# Altium integrated library Xilinx Artix-7.IntLib: 78 symbols (part 13 of 23)
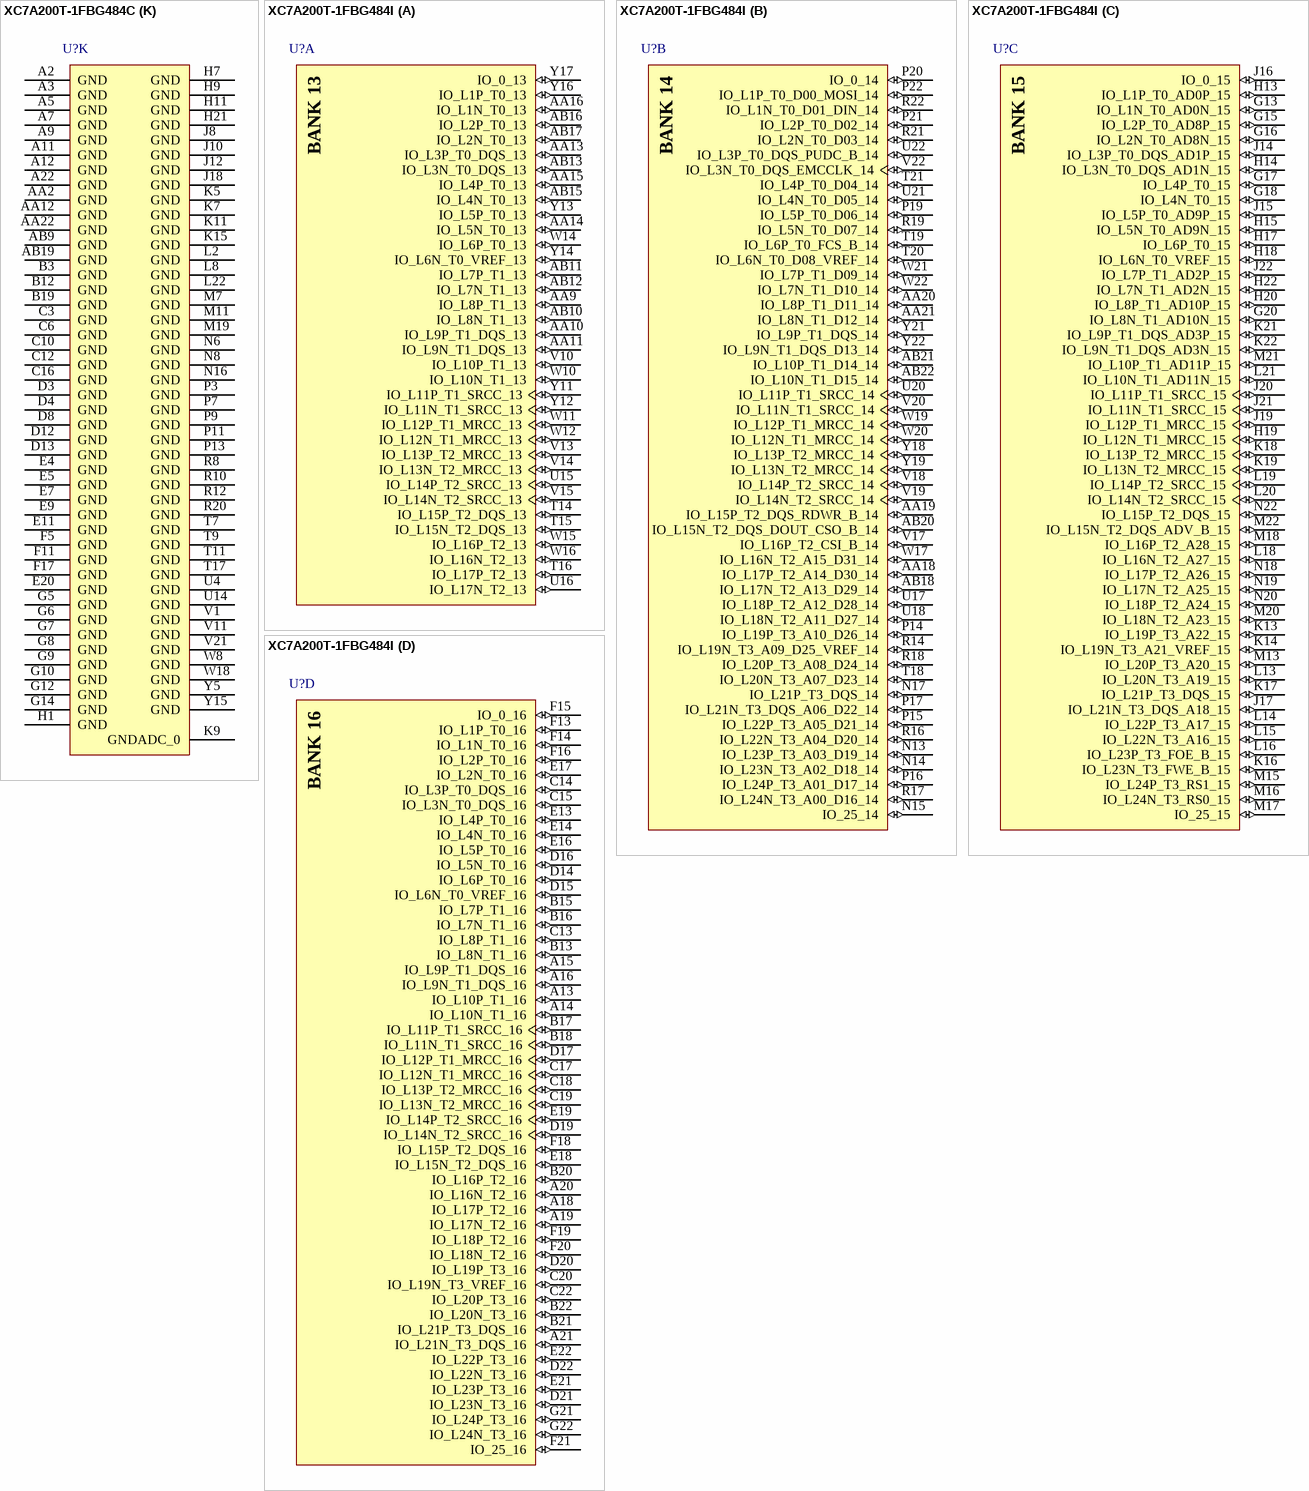
[diagram p139: symbols XC7A200T-1FBG484C to XC7A200T-1FBG484I]

## XC7A200T-1FBG484C
designator U?
Artix-7 FPGA, 285 User I/Os, 4 GTP, 484-Ball BGA, Speed Grade 1, Commercial Grade, Pb-Free; Generic Part Number: XC7A200T; Manufacturer: Xilinx; Block RAM Blocks (18Kb): 730; Block RAM Blocks (36Kb): 365; Block RAM Blocks (Max Kb): 13140; CLBs (Slices): 33650; Clock Mgmt Tiles (CMTs): 10; DSP48E1 Slices: 740; Logic Cells: 215360; Max User I/O: 500; Speed Grade: -1; NexusDeviceID: XC7A200T-1FBG484C; DatasheetVersion: v1.12; PackageVersion: Rev 1.8; PackageReference: FBG484; PackageDescription: Flip-Chip Lidless BGA, Body 23 x 23 mm, 1.0 mm Pitch; Supplier 1: Digi-Key; Supplier Part Number 1: 122-1871-ND; CLBs (Max Distributed RAM Kb): 2888; RoHS: Pb-Free; Mounting Technology: Surface Mount; Code_JEDEC: MS-034; PartNumber: XC7A200T-1FBG484C; ComponentLink1Description: Manufacturer URL; ComponentLink1URL: http://www.xilinx.com/; ComponentLink2Description: Datasheet; ComponentLink2URL: http://www.xilinx.com/support/documentation/data_sheets/ds180_7Series_Overview.pdf; ComponentLink3Description: Package Specification; ComponentLink3URL: http://www.xilinx.com/support/documentation/user_guides/ug475_7Series_Pkg_Pinout.pdf; ComponentLink4Description: DC and Switching Characteristics; ComponentLink4URL: http://www.xilinx.com/support/documentation/data_sheets/ds181_Artix_7_Data_Sheet.pdf; ComponentLink5Description: Package File; ComponentLink5URL: http://www.xilinx.com/support/packagefiles/a7packages/xc7a200tfbg484pkg.txt; ComponentLink6Description: Packaging and Pinout; ComponentLink6URL: http://www.xilinx.com/support/documentation/user_guides/ug475_7Series_Pkg_Pinout.pdf
footprint FBG484 (BGA, 484-Balls, Body 23x23mm, Pitch 1.0mm)
part A pins: AA9 IO_L8P_T1_13 (io), AA10 IO_L9P_T1_DQS_13 (io), AA11 IO_L9N_T1_DQS_13 (io), AA13 IO_L3P_T0_DQS_13 (io), AA14 IO_L5N_T0_13 (io), AA15 IO_L4P_T0_13 (io), AA16 IO_L1N_T0_13 (io), AB10 IO_L8N_T1_13 (io), AB11 IO_L7P_T1_13 (io), AB12 IO_L7N_T1_13 (io), AB13 IO_L3N_T0_DQS_13 (io), AB15 IO_L4N_T0_13 (io), AB16 IO_L2P_T0_13 (io), AB17 IO_L2N_T0_13 (io), T14 IO_L15P_T2_DQS_13 (io), T15 IO_L15N_T2_DQS_13 (io), T16 IO_L17P_T2_13 (io), U15 IO_L14P_T2_SRCC_13 (io), U16 IO_L17N_T2_13 (io), V10 IO_L10P_T1_13 (io), V13 IO_L13P_T2_MRCC_13 (io), V14 IO_L13N_T2_MRCC_13 (io), V15 IO_L14N_T2_SRCC_13 (io), W10 IO_L10N_T1_13 (io), W11 IO_L12P_T1_MRCC_13 (io), W12 IO_L12N_T1_MRCC_13 (io), W14 IO_L6P_T0_13 (io), W15 IO_L16P_T2_13 (io), W16 IO_L16N_T2_13 (io), Y11 IO_L11P_T1_SRCC_13 (io), Y12 IO_L11N_T1_SRCC_13 (io), Y13 IO_L5P_T0_13 (io), Y14 IO_L6N_T0_VREF_13 (io), Y16 IO_L1P_T0_13 (io), Y17 IO_0_13 (io)
part B pins: AA18 IO_L17P_T2_A14_D30_14 (io), AA19 IO_L15P_T2_DQS_RDWR_B_14 (io), AA20 IO_L8P_T1_D11_14 (io), AA21 IO_L8N_T1_D12_14 (io), AB18 IO_L17N_T2_A13_D29_14 (io), AB20 IO_L15N_T2_DQS_DOUT_CSO_B_14 (io), AB21 IO_L10P_T1_D14_14 (io), AB22 IO_L10N_T1_D15_14 (io), N13 IO_L23P_T3_A03_D19_14 (io), N14 IO_L23N_T3_A02_D18_14 (io), N15 IO_25_14 (io), N17 IO_L21P_T3_DQS_14 (io), P14 IO_L19P_T3_A10_D26_14 (io), P15 IO_L22P_T3_A05_D21_14 (io), P16 IO_L24P_T3_A01_D17_14 (io), P17 IO_L21N_T3_DQS_A06_D22_14 (io), P19 IO_L5P_T0_D06_14 (io), P20 IO_0_14 (io), P21 IO_L2P_T0_D02_14 (io), P22 IO_L1P_T0_D00_MOSI_14 (io), R14 IO_L19N_T3_A09_D25_VREF_14 (io), R16 IO_L22N_T3_A04_D20_14 (io), R17 IO_L24N_T3_A00_D16_14 (io), R18 IO_L20P_T3_A08_D24_14 (io), R19 IO_L5N_T0_D07_14 (io), R21 IO_L2N_T0_D03_14 (io), R22 IO_L1N_T0_D01_DIN_14 (io), T18 IO_L20N_T3_A07_D23_14 (io), T19 IO_L6P_T0_FCS_B_14 (io), T20 IO_L6N_T0_D08_VREF_14 (io), T21 IO_L4P_T0_D04_14 (io), U17 IO_L18P_T2_A12_D28_14 (io), U18 IO_L18N_T2_A11_D27_14 (io), U20 IO_L11P_T1_SRCC_14 (io), U21 IO_L4N_T0_D05_14 (io), U22 IO_L3P_T0_DQS_PUDC_B_14 (io), V17 IO_L16P_T2_CSI_B_14 (io), V18 IO_L14P_T2_SRCC_14 (io), V19 IO_L14N_T2_SRCC_14 (io), V20 IO_L11N_T1_SRCC_14 (io), V22 IO_L3N_T0_DQS_EMCCLK_14 (io), W17 IO_L16N_T2_A15_D31_14 (io), W19 IO_L12P_T1_MRCC_14 (io), W20 IO_L12N_T1_MRCC_14 (io), W21 IO_L7P_T1_D09_14 (io), W22 IO_L7N_T1_D10_14 (io), Y18 IO_L13P_T2_MRCC_14 (io), Y19 IO_L13N_T2_MRCC_14 (io), Y21 IO_L9P_T1_DQS_14 (io), Y22 IO_L9N_T1_DQS_D13_14 (io)
part C pins: G13 IO_L1N_T0_AD0N_15 (io), G15 IO_L2P_T0_AD8P_15 (io), G16 IO_L2N_T0_AD8N_15 (io), G17 IO_L4P_T0_15 (io), G18 IO_L4N_T0_15 (io), G20 IO_L8N_T1_AD10N_15 (io), H13 IO_L1P_T0_AD0P_15 (io), H14 IO_L3N_T0_DQS_AD1N_15 (io), H15 IO_L5N_T0_AD9N_15 (io), H17 IO_L6P_T0_15 (io), H18 IO_L6N_T0_VREF_15 (io), H19 IO_L12N_T1_MRCC_15 (io), H20 IO_L8P_T1_AD10P_15 (io), H22 IO_L7N_T1_AD2N_15 (io), J14 IO_L3P_T0_DQS_AD1P_15 (io), J15 IO_L5P_T0_AD9P_15 (io), J16 IO_0_15 (io), J17 IO_L21N_T3_DQS_A18_15 (io), J19 IO_L12P_T1_MRCC_15 (io), J20 IO_L11P_T1_SRCC_15 (io), J21 IO_L11N_T1_SRCC_15 (io), J22 IO_L7P_T1_AD2P_15 (io), K13 IO_L19P_T3_A22_15 (io), K14 IO_L19N_T3_A21_VREF_15 (io), K16 IO_L23N_T3_FWE_B_15 (io), K17 IO_L21P_T3_DQS_15 (io), K18 IO_L13P_T2_MRCC_15 (io), K19 IO_L13N_T2_MRCC_15 (io), K21 IO_L9P_T1_DQS_AD3P_15 (io), K22 IO_L9N_T1_DQS_AD3N_15 (io), L13 IO_L20N_T3_A19_15 (io), L14 IO_L22P_T3_A17_15 (io), L15 IO_L22N_T3_A16_15 (io), L16 IO_L23P_T3_FOE_B_15 (io), L18 IO_L16N_T2_A27_15 (io), L19 IO_L14P_T2_SRCC_15 (io), L20 IO_L14N_T2_SRCC_15 (io), L21 IO_L10N_T1_AD11N_15 (io), M13 IO_L20P_T3_A20_15 (io), M15 IO_L24P_T3_RS1_15 (io), M16 IO_L24N_T3_RS0_15 (io), M17 IO_25_15 (io), M18 IO_L16P_T2_A28_15 (io), M20 IO_L18N_T2_A23_15 (io), M21 IO_L10P_T1_AD11P_15 (io), M22 IO_L15N_T2_DQS_ADV_B_15 (io), N18 IO_L17P_T2_A26_15 (io), N19 IO_L17N_T2_A25_15 (io), N20 IO_L18P_T2_A24_15 (io), N22 IO_L15P_T2_DQS_15 (io)
part D pins: A13 IO_L10P_T1_16 (io), A14 IO_L10N_T1_16 (io), A15 IO_L9P_T1_DQS_16 (io), A16 IO_L9N_T1_DQS_16 (io), A18 IO_L17P_T2_16 (io), A19 IO_L17N_T2_16 (io), A20 IO_L16N_T2_16 (io), A21 IO_L21N_T3_DQS_16 (io), B13 IO_L8N_T1_16 (io), B15 IO_L7P_T1_16 (io), B16 IO_L7N_T1_16 (io), B17 IO_L11P_T1_SRCC_16 (io), B18 IO_L11N_T1_SRCC_16 (io), B20 IO_L16P_T2_16 (io), B21 IO_L21P_T3_DQS_16 (io), B22 IO_L20N_T3_16 (io), C13 IO_L8P_T1_16 (io), C14 IO_L3P_T0_DQS_16 (io), C15 IO_L3N_T0_DQS_16 (io), C17 IO_L12N_T1_MRCC_16 (io), C18 IO_L13P_T2_MRCC_16 (io), C19 IO_L13N_T2_MRCC_16 (io), C20 IO_L19N_T3_VREF_16 (io), C22 IO_L20P_T3_16 (io), D14 IO_L6P_T0_16 (io), D15 IO_L6N_T0_VREF_16 (io), D16 IO_L5N_T0_16 (io), D17 IO_L12P_T1_MRCC_16 (io), D19 IO_L14N_T2_SRCC_16 (io), D20 IO_L19P_T3_16 (io), D21 IO_L23N_T3_16 (io), D22 IO_L22N_T3_16 (io), E13 IO_L4P_T0_16 (io), E14 IO_L4N_T0_16 (io), E16 IO_L5P_T0_16 (io), E17 IO_L2N_T0_16 (io), E18 IO_L15N_T2_DQS_16 (io), E19 IO_L14P_T2_SRCC_16 (io), E21 IO_L23P_T3_16 (io), E22 IO_L22P_T3_16 (io), F13 IO_L1P_T0_16 (io), F14 IO_L1N_T0_16 (io), F15 IO_0_16 (io), F16 IO_L2P_T0_16 (io), F18 IO_L15P_T2_DQS_16 (io), F19 IO_L18P_T2_16 (io), F20 IO_L18N_T2_16 (io), F21 IO_25_16 (io), G21 IO_L24P_T3_16 (io), G22 IO_L24N_T3_16 (io)
part E pins: AA1 IO_L7P_T1_34 (io), AA3 IO_L9N_T1_DQS_34 (io), AA4 IO_L11N_T1_SRCC_34 (io), AA5 IO_L10P_T1_34 (io), AA6 IO_L18N_T2_34 (io), AA8 IO_L22P_T3_34 (io), AB1 IO_L7N_T1_34 (io), AB2 IO_L8N_T1_34 (io), AB3 IO_L8P_T1_34 (io), AB5 IO_L10N_T1_34 (io), AB6 IO_L20N_T3_34 (io), AB7 IO_L20P_T3_34 (io), AB8 IO_L22N_T3_34 (io), R2 IO_L3N_T0_DQS_34 (io), R3 IO_L3P_T0_DQS_34 (io), R4 IO_L13P_T2_MRCC_34 (io), R6 IO_L17P_T2_34 (io), T1 IO_L1P_T0_34 (io), T3 IO_0_34 (io), T4 IO_L13N_T2_MRCC_34 (io), T5 IO_L14P_T2_SRCC_34 (io), T6 IO_L17N_T2_34 (io), U1 IO_L1N_T0_34 (io), U2 IO_L2P_T0_34 (io), U3 IO_L6P_T0_34 (io), U5 IO_L14N_T2_SRCC_34 (io), U6 IO_L16P_T2_34 (io), U7 IO_25_34 (io), V2 IO_L2N_T0_34 (io), V3 IO_L6N_T0_VREF_34 (io), V4 IO_L12P_T1_MRCC_34 (io), V5 IO_L16N_T2_34 (io), V7 IO_L19P_T3_34 (io), V8 IO_L21N_T3_DQS_34 (io), V9 IO_L21P_T3_DQS_34 (io), W1 IO_L5P_T0_34 (io), W2 IO_L4P_T0_34 (io), W4 IO_L12N_T1_MRCC_34 (io), W5 IO_L15N_T2_DQS_34 (io), W6 IO_L15P_T2_DQS_34 (io), W7 IO_L19N_T3_VREF_34 (io), W9 IO_L24P_T3_34 (io), Y1 IO_L5N_T0_34 (io), Y2 IO_L4N_T0_34 (io), Y3 IO_L9P_T1_DQS_34 (io), Y4 IO_L11P_T1_SRCC_34 (io), Y6 IO_L18P_T2_34 (io), Y7 IO_L23N_T3_34 (io), Y8 IO_L23P_T3_34 (io), Y9 IO_L24N_T3_34 (io)
part F pins: A1 IO_L1N_T0_AD4N_35 (io), B1 IO_L1P_T0_AD4P_35 (io), B2 IO_L2N_T0_AD12N_35 (io), C2 IO_L2P_T0_AD12P_35 (io), D1 IO_L3N_T0_DQS_AD5N_35 (io), D2 IO_L4N_T0_35 (io), E1 IO_L3P_T0_DQS_AD5P_35 (io), E2 IO_L4P_T0_35 (io), E3 IO_L6N_T0_VREF_35 (io), F1 IO_L5N_T0_AD13N_35 (io), F3 IO_L6P_T0_35 (io), F4 IO_0_35 (io), G1 IO_L5P_T0_AD13P_35 (io), G2 IO_L8N_T1_AD14N_35 (io), G3 IO_L11N_T1_SRCC_35 (io), G4 IO_L12N_T1_MRCC_35 (io), H2 IO_L8P_T1_AD14P_35 (io), H3 IO_L11P_T1_SRCC_35 (io), H4 IO_L12P_T1_MRCC_35 (io), H5 IO_L10N_T1_AD15N_35 (io), J1 IO_L7N_T1_AD6N_35 (io), J2 IO_L9N_T1_DQS_AD7N_35 (io), J4 IO_L13N_T2_MRCC_35 (io), J5 IO_L10P_T1_AD15P_35 (io), J6 IO_L17N_T2_35 (io), K1 IO_L7P_T1_AD6P_35 (io), K2 IO_L9P_T1_DQS_AD7P_35 (io), K3 IO_L14N_T2_SRCC_35 (io), K4 IO_L13P_T2_MRCC_35 (io), K6 IO_L17P_T2_35 (io), L1 IO_L15N_T2_DQS_35 (io), L3 IO_L14P_T2_SRCC_35 (io), L4 IO_L18N_T2_35 (io), L5 IO_L18P_T2_35 (io), L6 IO_25_35 (io), M1 IO_L15P_T2_DQS_35 (io), M2 IO_L16N_T2_35 (io), M3 IO_L16P_T2_35 (io), M5 IO_L23N_T3_35 (io), M6 IO_L23P_T3_35 (io), N2 IO_L22N_T3_35 (io), N3 IO_L19N_T3_VREF_35 (io), N4 IO_L19P_T3_35 (io), N5 IO_L24N_T3_35 (io), P1 IO_L20N_T3_35 (io), P2 IO_L22P_T3_35 (io), P4 IO_L21N_T3_DQS_35 (io), P5 IO_L21P_T3_DQS_35 (io), P6 IO_L24P_T3_35 (io), R1 IO_L20P_T3_35 (io)
part G pins: G11 DONE_0 (io), L9 VREFN_0 (in), L10 VP_0 (in), L12 CCLK_0 (io), M9 VN_0 (in), M10 VREFP_0 (in), N9 DXN_0 (in), N10 DXP_0 (in), N12 PROGRAM_B_0 (in), R13 TDI_0 (in), T13 TMS_0 (in), U8 CFGBVS_0 (in), U9 M2_0 (in), U10 M1_0 (in), U11 M0_0 (in), U12 INIT_B_0 (io), U13 TDO_0 (out), V12 TCK_0 (in)
part H pins: A4 MGTPTXN0_216 (out), A6 MGTPTXN2_216 (out), A8 MGTPRXN0_216 (in), A10 MGTPRXN2_216 (in), B4 MGTPTXP0_216 (out), B6 MGTPTXP2_216 (out), B8 MGTPRXP0_216 (in), B10 MGTPRXP2_216 (in), C5 MGTPTXN1_216 (out), C7 MGTPTXN3_216 (out), C9 MGTPRXN3_216 (in), C11 MGTPRXN1_216 (in), D5 MGTPTXP1_216 (out), D7 MGTPTXP3_216 (out), D9 MGTPRXP3_216 (in), D11 MGTPRXP1_216 (in), E6 MGTREFCLK0N_216 (in), E10 MGTREFCLK1N_216 (in), F6 MGTREFCLK0P_216 (in), F8 MGTRREF_216 (in), F10 MGTREFCLK1P_216 (in)
part I pins: B5 MGTAVTT (power), B7 MGTAVTT (power), B9 MGTAVTT (power), B11 MGTAVTT (power), C4 MGTAVTT (power), C8 MGTAVTT (power), D6 MGTAVCC (power), D10 MGTAVCC (power), E8 MGTAVCC (power), F7 MGTAVCC (power), F9 MGTAVCC (power)
part J pins: A17 VCCO_16 (power), AA7 VCCO_34 (power), AA17 VCCO_13 (power), AB4 VCCO_34 (power), AB14 VCCO_13 (power), B14 VCCO_16 (power), C1 VCCO_35 (power), C21 VCCO_16 (power), D18 VCCO_16 (power), E12 VCCBATT_0 (power), E15 VCCO_16 (power), F2 VCCO_35 (power), F12 VCCO_0 (power), F22 VCCO_16 (power), G19 VCCO_15 (power), H6 VCCO_35 (power), H8 VCCINT (power), H10 VCCINT (power), H12 VCCAUX (power), H16 VCCO_15 (power), J3 VCCO_35 (power), J7 VCCINT (power), J9 VCCINT (power), J11 VCCBRAM (power), J13 VCCO_15 (power), K8 VCCINT (power), K10 VCCADC_0 (power), K12 VCCAUX (power), K20 VCCO_15 (power), L7 VCCINT (power), L11 VCCBRAM (power), L17 VCCO_15 (power), M4 VCCO_35 (power), M8 VCCINT (power), M12 VCCAUX (power), M14 VCCO_14 (power), N1 VCCO_35 (power), N7 VCCINT (power), N11 VCCBRAM (power), N21 VCCO_15 (power), P8 VCCINT (power), P10 VCCINT (power), P12 VCCAUX (power), P18 VCCO_14 (power), R5 VCCO_34 (power), R7 VCCINT (power), R9 VCCINT (power), R11 VCCAUX (power), R15 VCCO_14 (power), T2 VCCO_34 (power), T8 VCCINT (power), T10 VCCINT (power), T12 VCCO_0 (power), T22 VCCO_14 (power), U19 VCCO_14 (power), V6 VCCO_34 (power), V16 VCCO_13 (power), W3 VCCO_34 (power), W13 VCCO_13 (power), Y10 VCCO_13 (power), Y20 VCCO_14 (power)
part K pins: A2 GND (power), A3 GND (power), A5 GND (power), A7 GND (power), A9 GND (power), A11 GND (power), A12 GND (power), A22 GND (power), AA2 GND (power), AA12 GND (power), AA22 GND (power), AB9 GND (power), AB19 GND (power), B3 GND (power), B12 GND (power), B19 GND (power), C3 GND (power), C6 GND (power), C10 GND (power), C12 GND (power), C16 GND (power), D3 GND (power), D4 GND (power), D8 GND (power), D12 GND (power), D13 GND (power), E4 GND (power), E5 GND (power), E7 GND (power), E9 GND (power), E11 GND (power), E20 GND (power), F5 GND (power), F11 GND (power), F17 GND (power), G5 GND (power), G6 GND (power), G7 GND (power), G8 GND (power), G9 GND (power), G10 GND (power), G12 GND (power), G14 GND (power), H1 GND (power), H7 GND (power), H9 GND (power), H11 GND (power), H21 GND (power), J8 GND (power), J10 GND (power), J12 GND (power), J18 GND (power), K5 GND (power), K7 GND (power), K9 GNDADC_0 (power), K11 GND (power), K15 GND (power), L2 GND (power), L8 GND (power), L22 GND (power), M7 GND (power), M11 GND (power), M19 GND (power), N6 GND (power), N8 GND (power), N16 GND (power), P3 GND (power), P7 GND (power), P9 GND (power), P11 GND (power), P13 GND (power), R8 GND (power), R10 GND (power), R12 GND (power), R20 GND (power), T7 GND (power), T9 GND (power), T11 GND (power), T17 GND (power), U4 GND (power), U14 GND (power), V1 GND (power), V11 GND (power), V21 GND (power), W8 GND (power), W18 GND (power), Y5 GND (power), Y15 GND (power)
part A text: BANK 13
part B text: BANK 14
part C text: BANK 15
part D text: BANK 16
part E text: BANK 34
part F text: BANK 35

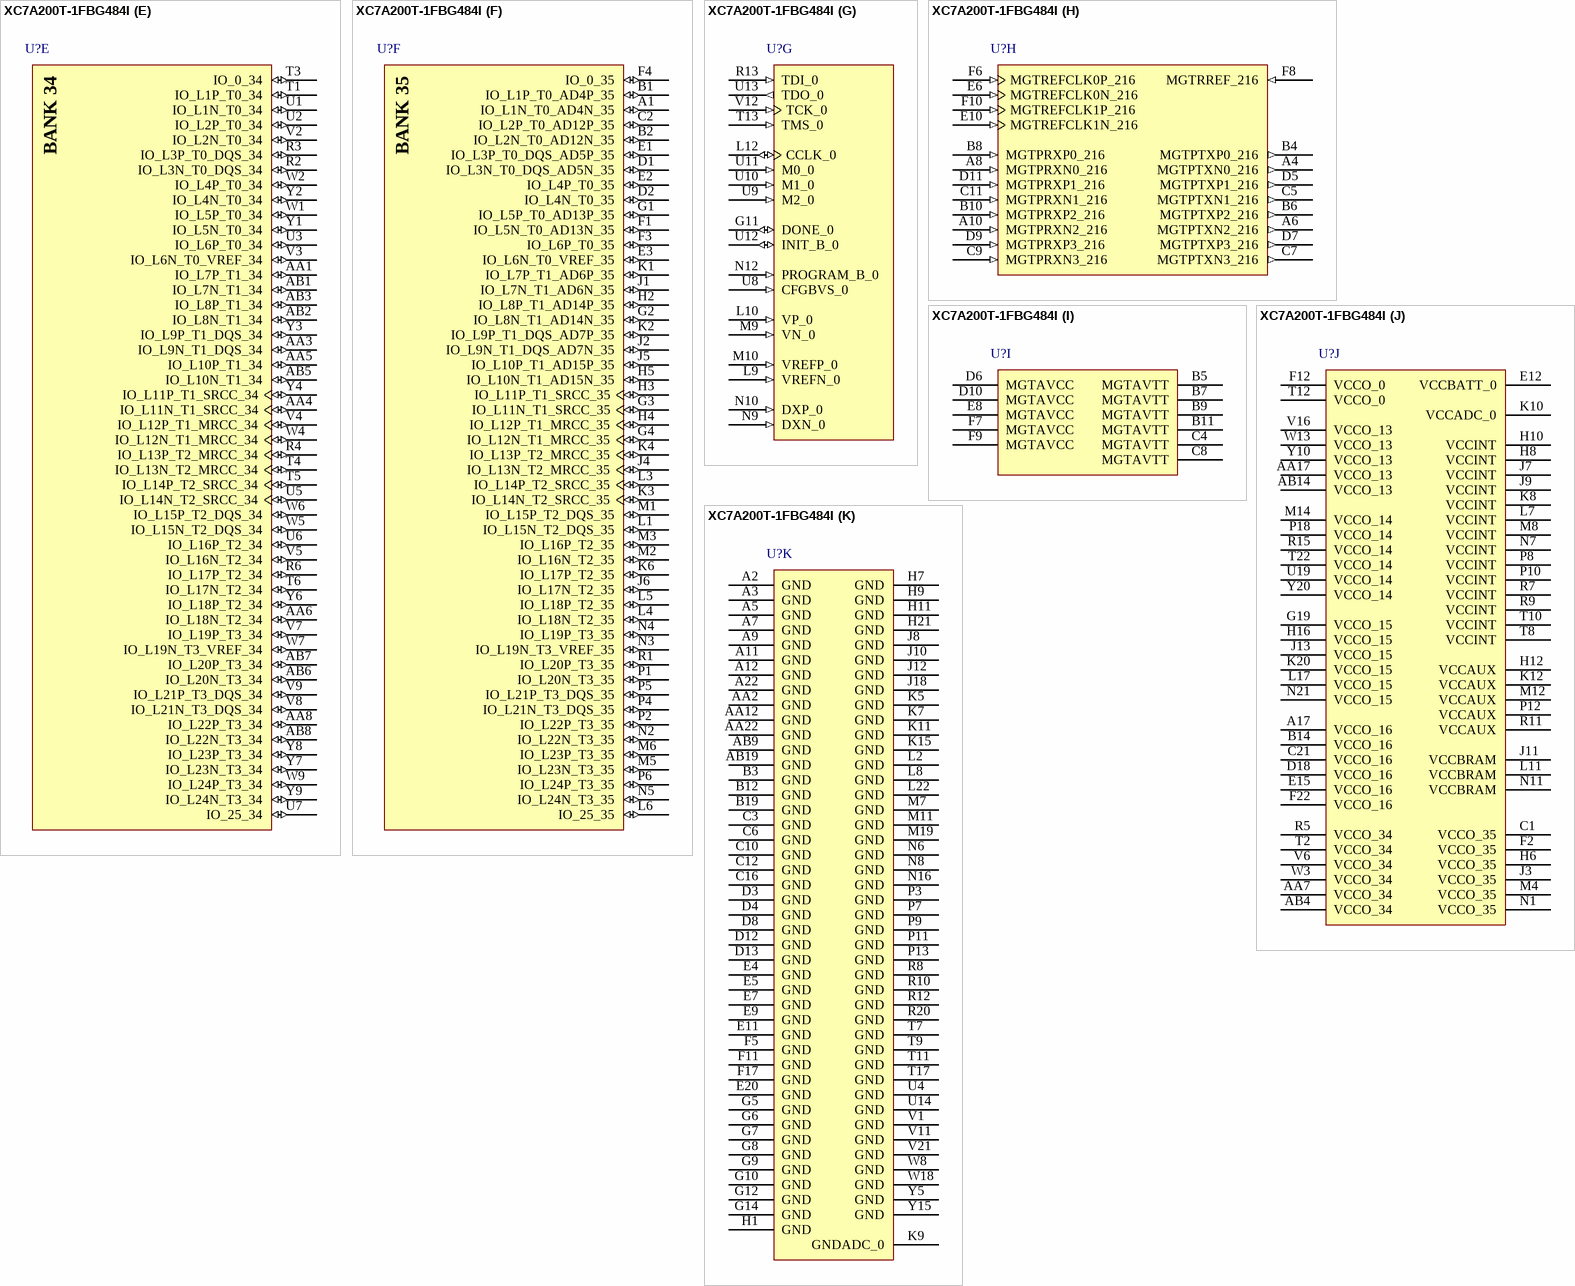
[diagram p69: symbol XC7A200T-1FBG484I]

## XC7A200T-1FBG484I
designator U?
Artix-7 FPGA, 285 User I/Os, 4 GTP, 484-Ball BGA, Speed Grade 1, Industrial Grade, Pb-Free; Generic Part Number: XC7A200T; Manufacturer: Xilinx; Block RAM Blocks (18Kb): 730; Block RAM Blocks (36Kb): 365; Block RAM Blocks (Max Kb): 13140; CLBs (Slices): 33650; Clock Mgmt Tiles (CMTs): 10; DSP48E1 Slices: 740; Logic Cells: 215360; Max User I/O: 500; Speed Grade: -1; NexusDeviceID: XC7A200T-1FBG484I; DatasheetVersion: v1.12; PackageVersion: Rev 1.8; PackageReference: FBG484; PackageDescription: Flip-Chip Lidless BGA, Body 23 x 23 mm, 1.0 mm Pitch; Supplier 1: Digi-Key; Supplier Part Number 1: 122-1870-ND; CLBs (Max Distributed RAM Kb): 2888; RoHS: Pb-Free; Mounting Technology: Surface Mount; Code_JEDEC: MS-034; PartNumber: XC7A200T-1FBG484I; ComponentLink1Description: Manufacturer URL; ComponentLink1URL: http://www.xilinx.com/; ComponentLink2Description: Datasheet; ComponentLink2URL: http://www.xilinx.com/support/documentation/data_sheets/ds180_7Series_Overview.pdf; ComponentLink3Description: Package Specification; ComponentLink3URL: http://www.xilinx.com/support/documentation/user_guides/ug475_7Series_Pkg_Pinout.pdf; ComponentLink4Description: DC and Switching Characteristics; ComponentLink4URL: http://www.xilinx.com/support/documentation/data_sheets/ds181_Artix_7_Data_Sheet.pdf; ComponentLink5Description: Package File; ComponentLink5URL: http://www.xilinx.com/support/packagefiles/a7packages/xc7a200tfbg484pkg.txt; ComponentLink6Description: Packaging and Pinout; ComponentLink6URL: http://www.xilinx.com/support/documentation/user_guides/ug475_7Series_Pkg_Pinout.pdf
footprint FBG484 (BGA, 484-Balls, Body 23x23mm, Pitch 1.0mm)
part A pins: AA9 IO_L8P_T1_13 (io), AA10 IO_L9P_T1_DQS_13 (io), AA11 IO_L9N_T1_DQS_13 (io), AA13 IO_L3P_T0_DQS_13 (io), AA14 IO_L5N_T0_13 (io), AA15 IO_L4P_T0_13 (io), AA16 IO_L1N_T0_13 (io), AB10 IO_L8N_T1_13 (io), AB11 IO_L7P_T1_13 (io), AB12 IO_L7N_T1_13 (io), AB13 IO_L3N_T0_DQS_13 (io), AB15 IO_L4N_T0_13 (io), AB16 IO_L2P_T0_13 (io), AB17 IO_L2N_T0_13 (io), T14 IO_L15P_T2_DQS_13 (io), T15 IO_L15N_T2_DQS_13 (io), T16 IO_L17P_T2_13 (io), U15 IO_L14P_T2_SRCC_13 (io), U16 IO_L17N_T2_13 (io), V10 IO_L10P_T1_13 (io), V13 IO_L13P_T2_MRCC_13 (io), V14 IO_L13N_T2_MRCC_13 (io), V15 IO_L14N_T2_SRCC_13 (io), W10 IO_L10N_T1_13 (io), W11 IO_L12P_T1_MRCC_13 (io), W12 IO_L12N_T1_MRCC_13 (io), W14 IO_L6P_T0_13 (io), W15 IO_L16P_T2_13 (io), W16 IO_L16N_T2_13 (io), Y11 IO_L11P_T1_SRCC_13 (io), Y12 IO_L11N_T1_SRCC_13 (io), Y13 IO_L5P_T0_13 (io), Y14 IO_L6N_T0_VREF_13 (io), Y16 IO_L1P_T0_13 (io), Y17 IO_0_13 (io)
part B pins: AA18 IO_L17P_T2_A14_D30_14 (io), AA19 IO_L15P_T2_DQS_RDWR_B_14 (io), AA20 IO_L8P_T1_D11_14 (io), AA21 IO_L8N_T1_D12_14 (io), AB18 IO_L17N_T2_A13_D29_14 (io), AB20 IO_L15N_T2_DQS_DOUT_CSO_B_14 (io), AB21 IO_L10P_T1_D14_14 (io), AB22 IO_L10N_T1_D15_14 (io), N13 IO_L23P_T3_A03_D19_14 (io), N14 IO_L23N_T3_A02_D18_14 (io), N15 IO_25_14 (io), N17 IO_L21P_T3_DQS_14 (io), P14 IO_L19P_T3_A10_D26_14 (io), P15 IO_L22P_T3_A05_D21_14 (io), P16 IO_L24P_T3_A01_D17_14 (io), P17 IO_L21N_T3_DQS_A06_D22_14 (io), P19 IO_L5P_T0_D06_14 (io), P20 IO_0_14 (io), P21 IO_L2P_T0_D02_14 (io), P22 IO_L1P_T0_D00_MOSI_14 (io), R14 IO_L19N_T3_A09_D25_VREF_14 (io), R16 IO_L22N_T3_A04_D20_14 (io), R17 IO_L24N_T3_A00_D16_14 (io), R18 IO_L20P_T3_A08_D24_14 (io), R19 IO_L5N_T0_D07_14 (io), R21 IO_L2N_T0_D03_14 (io), R22 IO_L1N_T0_D01_DIN_14 (io), T18 IO_L20N_T3_A07_D23_14 (io), T19 IO_L6P_T0_FCS_B_14 (io), T20 IO_L6N_T0_D08_VREF_14 (io), T21 IO_L4P_T0_D04_14 (io), U17 IO_L18P_T2_A12_D28_14 (io), U18 IO_L18N_T2_A11_D27_14 (io), U20 IO_L11P_T1_SRCC_14 (io), U21 IO_L4N_T0_D05_14 (io), U22 IO_L3P_T0_DQS_PUDC_B_14 (io), V17 IO_L16P_T2_CSI_B_14 (io), V18 IO_L14P_T2_SRCC_14 (io), V19 IO_L14N_T2_SRCC_14 (io), V20 IO_L11N_T1_SRCC_14 (io), V22 IO_L3N_T0_DQS_EMCCLK_14 (io), W17 IO_L16N_T2_A15_D31_14 (io), W19 IO_L12P_T1_MRCC_14 (io), W20 IO_L12N_T1_MRCC_14 (io), W21 IO_L7P_T1_D09_14 (io), W22 IO_L7N_T1_D10_14 (io), Y18 IO_L13P_T2_MRCC_14 (io), Y19 IO_L13N_T2_MRCC_14 (io), Y21 IO_L9P_T1_DQS_14 (io), Y22 IO_L9N_T1_DQS_D13_14 (io)
part C pins: G13 IO_L1N_T0_AD0N_15 (io), G15 IO_L2P_T0_AD8P_15 (io), G16 IO_L2N_T0_AD8N_15 (io), G17 IO_L4P_T0_15 (io), G18 IO_L4N_T0_15 (io), G20 IO_L8N_T1_AD10N_15 (io), H13 IO_L1P_T0_AD0P_15 (io), H14 IO_L3N_T0_DQS_AD1N_15 (io), H15 IO_L5N_T0_AD9N_15 (io), H17 IO_L6P_T0_15 (io), H18 IO_L6N_T0_VREF_15 (io), H19 IO_L12N_T1_MRCC_15 (io), H20 IO_L8P_T1_AD10P_15 (io), H22 IO_L7N_T1_AD2N_15 (io), J14 IO_L3P_T0_DQS_AD1P_15 (io), J15 IO_L5P_T0_AD9P_15 (io), J16 IO_0_15 (io), J17 IO_L21N_T3_DQS_A18_15 (io), J19 IO_L12P_T1_MRCC_15 (io), J20 IO_L11P_T1_SRCC_15 (io), J21 IO_L11N_T1_SRCC_15 (io), J22 IO_L7P_T1_AD2P_15 (io), K13 IO_L19P_T3_A22_15 (io), K14 IO_L19N_T3_A21_VREF_15 (io), K16 IO_L23N_T3_FWE_B_15 (io), K17 IO_L21P_T3_DQS_15 (io), K18 IO_L13P_T2_MRCC_15 (io), K19 IO_L13N_T2_MRCC_15 (io), K21 IO_L9P_T1_DQS_AD3P_15 (io), K22 IO_L9N_T1_DQS_AD3N_15 (io), L13 IO_L20N_T3_A19_15 (io), L14 IO_L22P_T3_A17_15 (io), L15 IO_L22N_T3_A16_15 (io), L16 IO_L23P_T3_FOE_B_15 (io), L18 IO_L16N_T2_A27_15 (io), L19 IO_L14P_T2_SRCC_15 (io), L20 IO_L14N_T2_SRCC_15 (io), L21 IO_L10N_T1_AD11N_15 (io), M13 IO_L20P_T3_A20_15 (io), M15 IO_L24P_T3_RS1_15 (io), M16 IO_L24N_T3_RS0_15 (io), M17 IO_25_15 (io), M18 IO_L16P_T2_A28_15 (io), M20 IO_L18N_T2_A23_15 (io), M21 IO_L10P_T1_AD11P_15 (io), M22 IO_L15N_T2_DQS_ADV_B_15 (io), N18 IO_L17P_T2_A26_15 (io), N19 IO_L17N_T2_A25_15 (io), N20 IO_L18P_T2_A24_15 (io), N22 IO_L15P_T2_DQS_15 (io)
part D pins: A13 IO_L10P_T1_16 (io), A14 IO_L10N_T1_16 (io), A15 IO_L9P_T1_DQS_16 (io), A16 IO_L9N_T1_DQS_16 (io), A18 IO_L17P_T2_16 (io), A19 IO_L17N_T2_16 (io), A20 IO_L16N_T2_16 (io), A21 IO_L21N_T3_DQS_16 (io), B13 IO_L8N_T1_16 (io), B15 IO_L7P_T1_16 (io), B16 IO_L7N_T1_16 (io), B17 IO_L11P_T1_SRCC_16 (io), B18 IO_L11N_T1_SRCC_16 (io), B20 IO_L16P_T2_16 (io), B21 IO_L21P_T3_DQS_16 (io), B22 IO_L20N_T3_16 (io), C13 IO_L8P_T1_16 (io), C14 IO_L3P_T0_DQS_16 (io), C15 IO_L3N_T0_DQS_16 (io), C17 IO_L12N_T1_MRCC_16 (io), C18 IO_L13P_T2_MRCC_16 (io), C19 IO_L13N_T2_MRCC_16 (io), C20 IO_L19N_T3_VREF_16 (io), C22 IO_L20P_T3_16 (io), D14 IO_L6P_T0_16 (io), D15 IO_L6N_T0_VREF_16 (io), D16 IO_L5N_T0_16 (io), D17 IO_L12P_T1_MRCC_16 (io), D19 IO_L14N_T2_SRCC_16 (io), D20 IO_L19P_T3_16 (io), D21 IO_L23N_T3_16 (io), D22 IO_L22N_T3_16 (io), E13 IO_L4P_T0_16 (io), E14 IO_L4N_T0_16 (io), E16 IO_L5P_T0_16 (io), E17 IO_L2N_T0_16 (io), E18 IO_L15N_T2_DQS_16 (io), E19 IO_L14P_T2_SRCC_16 (io), E21 IO_L23P_T3_16 (io), E22 IO_L22P_T3_16 (io), F13 IO_L1P_T0_16 (io), F14 IO_L1N_T0_16 (io), F15 IO_0_16 (io), F16 IO_L2P_T0_16 (io), F18 IO_L15P_T2_DQS_16 (io), F19 IO_L18P_T2_16 (io), F20 IO_L18N_T2_16 (io), F21 IO_25_16 (io), G21 IO_L24P_T3_16 (io), G22 IO_L24N_T3_16 (io)
part E pins: AA1 IO_L7P_T1_34 (io), AA3 IO_L9N_T1_DQS_34 (io), AA4 IO_L11N_T1_SRCC_34 (io), AA5 IO_L10P_T1_34 (io), AA6 IO_L18N_T2_34 (io), AA8 IO_L22P_T3_34 (io), AB1 IO_L7N_T1_34 (io), AB2 IO_L8N_T1_34 (io), AB3 IO_L8P_T1_34 (io), AB5 IO_L10N_T1_34 (io), AB6 IO_L20N_T3_34 (io), AB7 IO_L20P_T3_34 (io), AB8 IO_L22N_T3_34 (io), R2 IO_L3N_T0_DQS_34 (io), R3 IO_L3P_T0_DQS_34 (io), R4 IO_L13P_T2_MRCC_34 (io), R6 IO_L17P_T2_34 (io), T1 IO_L1P_T0_34 (io), T3 IO_0_34 (io), T4 IO_L13N_T2_MRCC_34 (io), T5 IO_L14P_T2_SRCC_34 (io), T6 IO_L17N_T2_34 (io), U1 IO_L1N_T0_34 (io), U2 IO_L2P_T0_34 (io), U3 IO_L6P_T0_34 (io), U5 IO_L14N_T2_SRCC_34 (io), U6 IO_L16P_T2_34 (io), U7 IO_25_34 (io), V2 IO_L2N_T0_34 (io), V3 IO_L6N_T0_VREF_34 (io), V4 IO_L12P_T1_MRCC_34 (io), V5 IO_L16N_T2_34 (io), V7 IO_L19P_T3_34 (io), V8 IO_L21N_T3_DQS_34 (io), V9 IO_L21P_T3_DQS_34 (io), W1 IO_L5P_T0_34 (io), W2 IO_L4P_T0_34 (io), W4 IO_L12N_T1_MRCC_34 (io), W5 IO_L15N_T2_DQS_34 (io), W6 IO_L15P_T2_DQS_34 (io), W7 IO_L19N_T3_VREF_34 (io), W9 IO_L24P_T3_34 (io), Y1 IO_L5N_T0_34 (io), Y2 IO_L4N_T0_34 (io), Y3 IO_L9P_T1_DQS_34 (io), Y4 IO_L11P_T1_SRCC_34 (io), Y6 IO_L18P_T2_34 (io), Y7 IO_L23N_T3_34 (io), Y8 IO_L23P_T3_34 (io), Y9 IO_L24N_T3_34 (io)
part F pins: A1 IO_L1N_T0_AD4N_35 (io), B1 IO_L1P_T0_AD4P_35 (io), B2 IO_L2N_T0_AD12N_35 (io), C2 IO_L2P_T0_AD12P_35 (io), D1 IO_L3N_T0_DQS_AD5N_35 (io), D2 IO_L4N_T0_35 (io), E1 IO_L3P_T0_DQS_AD5P_35 (io), E2 IO_L4P_T0_35 (io), E3 IO_L6N_T0_VREF_35 (io), F1 IO_L5N_T0_AD13N_35 (io), F3 IO_L6P_T0_35 (io), F4 IO_0_35 (io), G1 IO_L5P_T0_AD13P_35 (io), G2 IO_L8N_T1_AD14N_35 (io), G3 IO_L11N_T1_SRCC_35 (io), G4 IO_L12N_T1_MRCC_35 (io), H2 IO_L8P_T1_AD14P_35 (io), H3 IO_L11P_T1_SRCC_35 (io), H4 IO_L12P_T1_MRCC_35 (io), H5 IO_L10N_T1_AD15N_35 (io), J1 IO_L7N_T1_AD6N_35 (io), J2 IO_L9N_T1_DQS_AD7N_35 (io), J4 IO_L13N_T2_MRCC_35 (io), J5 IO_L10P_T1_AD15P_35 (io), J6 IO_L17N_T2_35 (io), K1 IO_L7P_T1_AD6P_35 (io), K2 IO_L9P_T1_DQS_AD7P_35 (io), K3 IO_L14N_T2_SRCC_35 (io), K4 IO_L13P_T2_MRCC_35 (io), K6 IO_L17P_T2_35 (io), L1 IO_L15N_T2_DQS_35 (io), L3 IO_L14P_T2_SRCC_35 (io), L4 IO_L18N_T2_35 (io), L5 IO_L18P_T2_35 (io), L6 IO_25_35 (io), M1 IO_L15P_T2_DQS_35 (io), M2 IO_L16N_T2_35 (io), M3 IO_L16P_T2_35 (io), M5 IO_L23N_T3_35 (io), M6 IO_L23P_T3_35 (io), N2 IO_L22N_T3_35 (io), N3 IO_L19N_T3_VREF_35 (io), N4 IO_L19P_T3_35 (io), N5 IO_L24N_T3_35 (io), P1 IO_L20N_T3_35 (io), P2 IO_L22P_T3_35 (io), P4 IO_L21N_T3_DQS_35 (io), P5 IO_L21P_T3_DQS_35 (io), P6 IO_L24P_T3_35 (io), R1 IO_L20P_T3_35 (io)
part G pins: G11 DONE_0 (io), L9 VREFN_0 (in), L10 VP_0 (in), L12 CCLK_0 (io), M9 VN_0 (in), M10 VREFP_0 (in), N9 DXN_0 (in), N10 DXP_0 (in), N12 PROGRAM_B_0 (in), R13 TDI_0 (in), T13 TMS_0 (in), U8 CFGBVS_0 (in), U9 M2_0 (in), U10 M1_0 (in), U11 M0_0 (in), U12 INIT_B_0 (io), U13 TDO_0 (out), V12 TCK_0 (in)
part H pins: A4 MGTPTXN0_216 (out), A6 MGTPTXN2_216 (out), A8 MGTPRXN0_216 (in), A10 MGTPRXN2_216 (in), B4 MGTPTXP0_216 (out), B6 MGTPTXP2_216 (out), B8 MGTPRXP0_216 (in), B10 MGTPRXP2_216 (in), C5 MGTPTXN1_216 (out), C7 MGTPTXN3_216 (out), C9 MGTPRXN3_216 (in), C11 MGTPRXN1_216 (in), D5 MGTPTXP1_216 (out), D7 MGTPTXP3_216 (out), D9 MGTPRXP3_216 (in), D11 MGTPRXP1_216 (in), E6 MGTREFCLK0N_216 (in), E10 MGTREFCLK1N_216 (in), F6 MGTREFCLK0P_216 (in), F8 MGTRREF_216 (in), F10 MGTREFCLK1P_216 (in)
part I pins: B5 MGTAVTT (power), B7 MGTAVTT (power), B9 MGTAVTT (power), B11 MGTAVTT (power), C4 MGTAVTT (power), C8 MGTAVTT (power), D6 MGTAVCC (power), D10 MGTAVCC (power), E8 MGTAVCC (power), F7 MGTAVCC (power), F9 MGTAVCC (power)
part J pins: A17 VCCO_16 (power), AA7 VCCO_34 (power), AA17 VCCO_13 (power), AB4 VCCO_34 (power), AB14 VCCO_13 (power), B14 VCCO_16 (power), C1 VCCO_35 (power), C21 VCCO_16 (power), D18 VCCO_16 (power), E12 VCCBATT_0 (power), E15 VCCO_16 (power), F2 VCCO_35 (power), F12 VCCO_0 (power), F22 VCCO_16 (power), G19 VCCO_15 (power), H6 VCCO_35 (power), H8 VCCINT (power), H10 VCCINT (power), H12 VCCAUX (power), H16 VCCO_15 (power), J3 VCCO_35 (power), J7 VCCINT (power), J9 VCCINT (power), J11 VCCBRAM (power), J13 VCCO_15 (power), K8 VCCINT (power), K10 VCCADC_0 (power), K12 VCCAUX (power), K20 VCCO_15 (power), L7 VCCINT (power), L11 VCCBRAM (power), L17 VCCO_15 (power), M4 VCCO_35 (power), M8 VCCINT (power), M12 VCCAUX (power), M14 VCCO_14 (power), N1 VCCO_35 (power), N7 VCCINT (power), N11 VCCBRAM (power), N21 VCCO_15 (power), P8 VCCINT (power), P10 VCCINT (power), P12 VCCAUX (power), P18 VCCO_14 (power), R5 VCCO_34 (power), R7 VCCINT (power), R9 VCCINT (power), R11 VCCAUX (power), R15 VCCO_14 (power), T2 VCCO_34 (power), T8 VCCINT (power), T10 VCCINT (power), T12 VCCO_0 (power), T22 VCCO_14 (power), U19 VCCO_14 (power), V6 VCCO_34 (power), V16 VCCO_13 (power), W3 VCCO_34 (power), W13 VCCO_13 (power), Y10 VCCO_13 (power), Y20 VCCO_14 (power)
part K pins: A2 GND (power), A3 GND (power), A5 GND (power), A7 GND (power), A9 GND (power), A11 GND (power), A12 GND (power), A22 GND (power), AA2 GND (power), AA12 GND (power), AA22 GND (power), AB9 GND (power), AB19 GND (power), B3 GND (power), B12 GND (power), B19 GND (power), C3 GND (power), C6 GND (power), C10 GND (power), C12 GND (power), C16 GND (power), D3 GND (power), D4 GND (power), D8 GND (power), D12 GND (power), D13 GND (power), E4 GND (power), E5 GND (power), E7 GND (power), E9 GND (power), E11 GND (power), E20 GND (power), F5 GND (power), F11 GND (power), F17 GND (power), G5 GND (power), G6 GND (power), G7 GND (power), G8 GND (power), G9 GND (power), G10 GND (power), G12 GND (power), G14 GND (power), H1 GND (power), H7 GND (power), H9 GND (power), H11 GND (power), H21 GND (power), J8 GND (power), J10 GND (power), J12 GND (power), J18 GND (power), K5 GND (power), K7 GND (power), K9 GNDADC_0 (power), K11 GND (power), K15 GND (power), L2 GND (power), L8 GND (power), L22 GND (power), M7 GND (power), M11 GND (power), M19 GND (power), N6 GND (power), N8 GND (power), N16 GND (power), P3 GND (power), P7 GND (power), P9 GND (power), P11 GND (power), P13 GND (power), R8 GND (power), R10 GND (power), R12 GND (power), R20 GND (power), T7 GND (power), T9 GND (power), T11 GND (power), T17 GND (power), U4 GND (power), U14 GND (power), V1 GND (power), V11 GND (power), V21 GND (power), W8 GND (power), W18 GND (power), Y5 GND (power), Y15 GND (power)
part A text: BANK 13
part B text: BANK 14
part C text: BANK 15
part D text: BANK 16
part E text: BANK 34
part F text: BANK 35

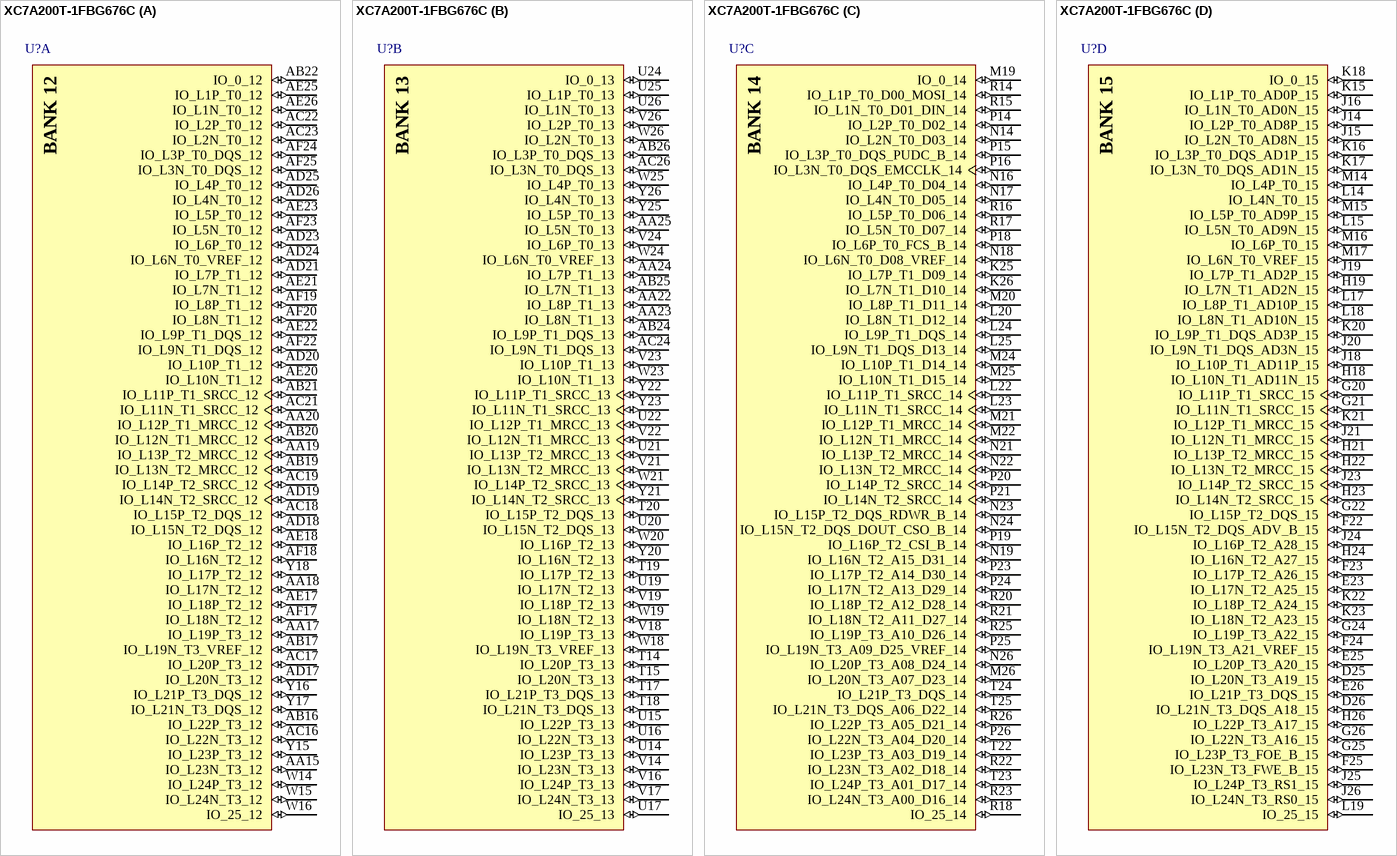
[diagram p70: symbol XC7A200T-1FBG676C]

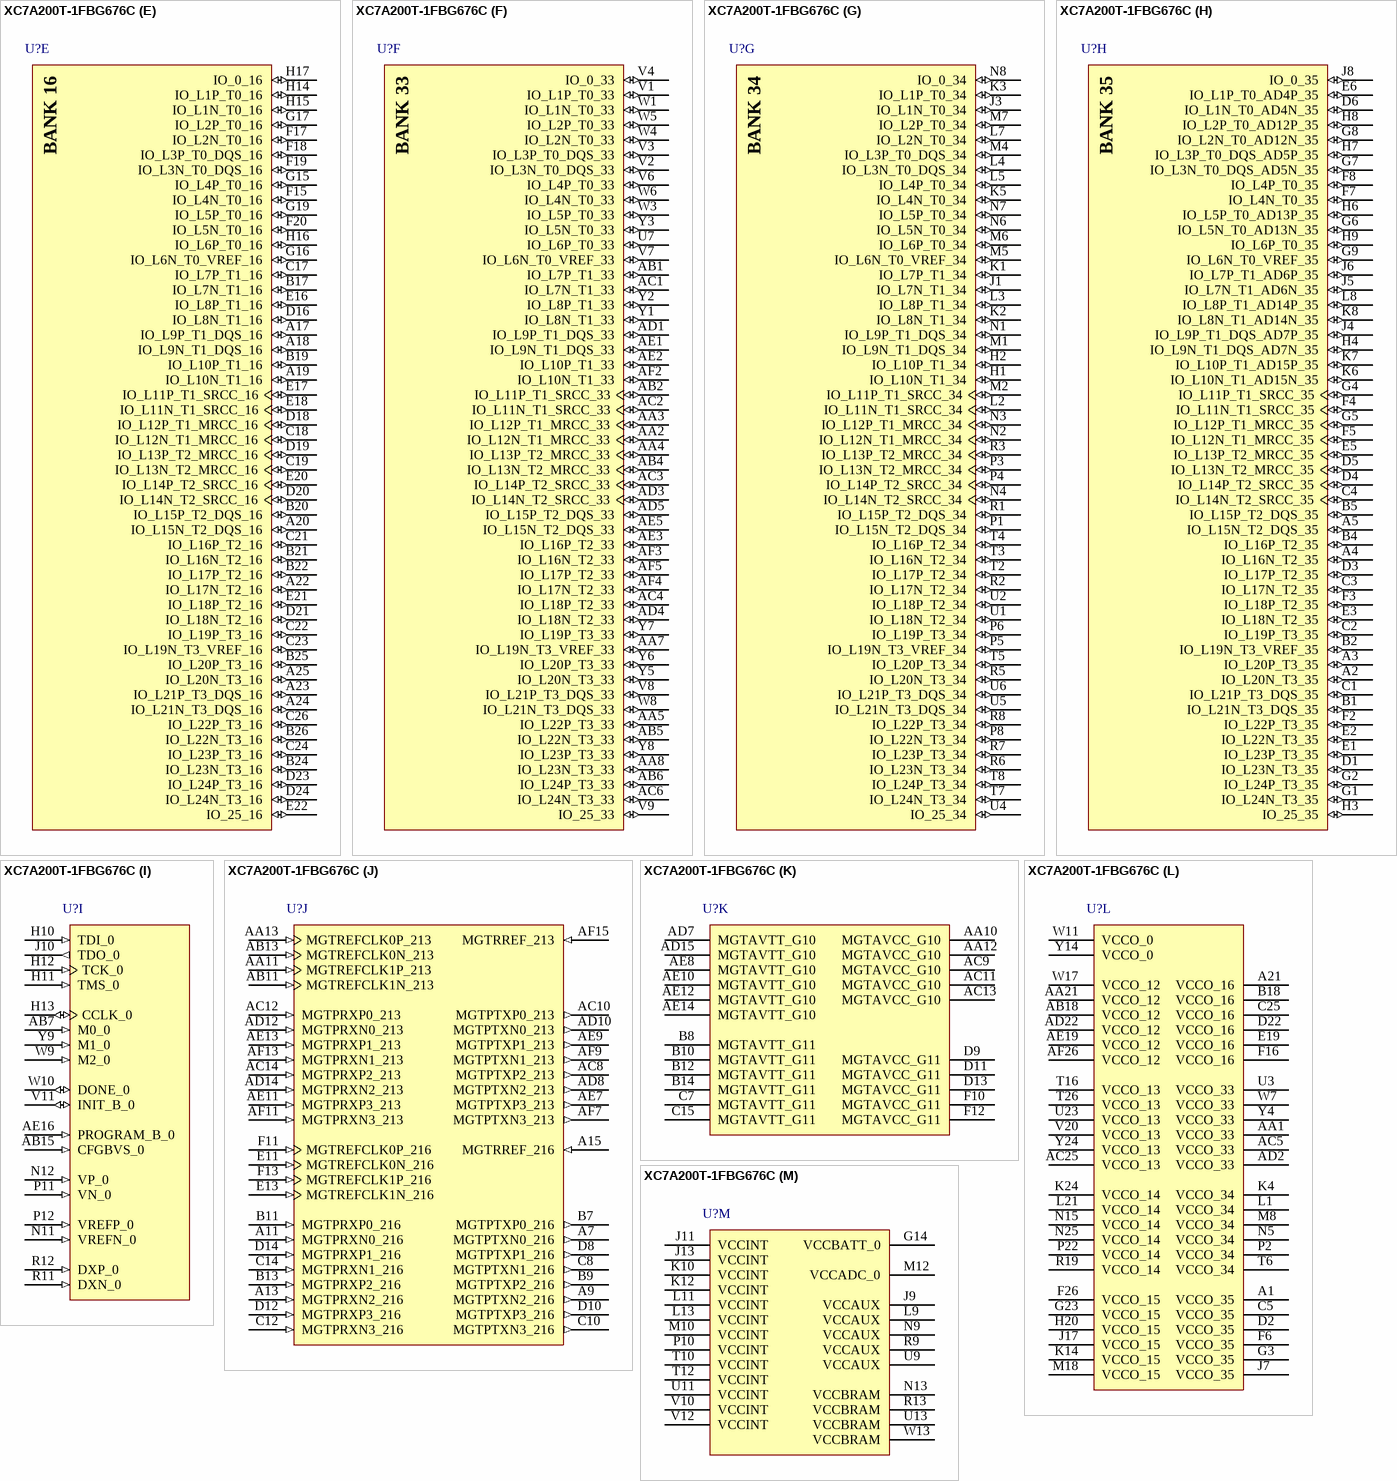
[diagram p71: symbol XC7A200T-1FBG676C]

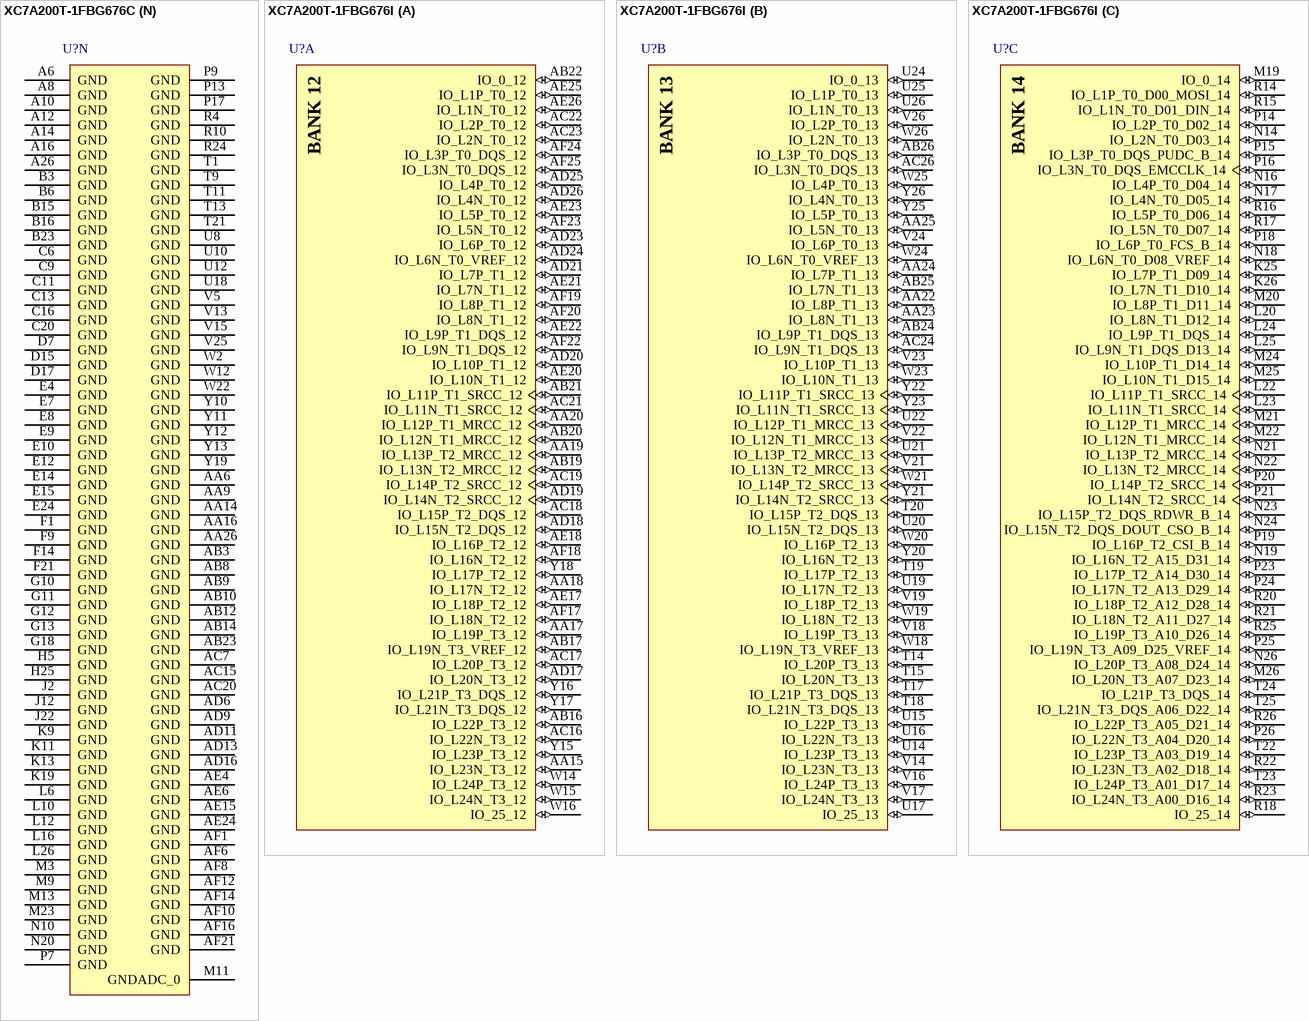
[diagram p72: symbols XC7A200T-1FBG676C to XC7A200T-1FBG676I]

## XC7A200T-1FBG676C
designator U?
Artix-7 FPGA, 400 User I/Os, 8 GTP, 676-Ball BGA, Speed Grade 1, Commercial Grade, Pb-Free; Generic Part Number: XC7A200T; Manufacturer: Xilinx; Block RAM Blocks (18Kb): 730; Block RAM Blocks (36Kb): 365; Block RAM Blocks (Max Kb): 13140; CLBs (Slices): 33650; Clock Mgmt Tiles (CMTs): 10; DSP48E1 Slices: 740; Logic Cells: 215360; Max User I/O: 500; Speed Grade: -1; NexusDeviceID: XC7A200T-1FBG676C; DatasheetVersion: v1.12; PackageVersion: Rev 1.8; PackageReference: FBG676; PackageDescription: Flip-Chip Lidless BGA, Body 27 x 27 mm, 1.0 mm Pitch; Supplier 1: Digi-Key; Supplier Part Number 1: 122-1869-ND; CLBs (Max Distributed RAM Kb): 2888; RoHS: Pb-Free; Mounting Technology: Surface Mount; Code_JEDEC: MS-034; PartNumber: XC7A200T-1FBG676C; ComponentLink1Description: Manufacturer URL; ComponentLink1URL: http://www.xilinx.com/; ComponentLink2Description: Datasheet; ComponentLink2URL: http://www.xilinx.com/support/documentation/data_sheets/ds180_7Series_Overview.pdf; ComponentLink3Description: Package Specification; ComponentLink3URL: http://www.xilinx.com/support/documentation/user_guides/ug475_7Series_Pkg_Pinout.pdf; ComponentLink4Description: DC and Switching Characteristics; ComponentLink4URL: http://www.xilinx.com/support/documentation/data_sheets/ds181_Artix_7_Data_Sheet.pdf; ComponentLink5Description: Package File; ComponentLink5URL: http://www.xilinx.com/support/packagefiles/a7packages/xc7a200tfbg676pkg.txt; ComponentLink6Description: Packaging and Pinout; ComponentLink6URL: http://www.xilinx.com/support/documentation/user_guides/ug475_7Series_Pkg_Pinout.pdf
footprint FBG676 (BGA, 676-Balls, Body 27x27mm, Pitch 1.0mm)
part A pins: AA15 IO_L23N_T3_12 (io), AA17 IO_L19P_T3_12 (io), AA18 IO_L17N_T2_12 (io), AA19 IO_L13P_T2_MRCC_12 (io), AA20 IO_L12P_T1_MRCC_12 (io), AB16 IO_L22P_T3_12 (io), AB17 IO_L19N_T3_VREF_12 (io), AB19 IO_L13N_T2_MRCC_12 (io), AB20 IO_L12N_T1_MRCC_12 (io), AB21 IO_L11P_T1_SRCC_12 (io), AB22 IO_0_12 (io), AC16 IO_L22N_T3_12 (io), AC17 IO_L20P_T3_12 (io), AC18 IO_L15P_T2_DQS_12 (io), AC19 IO_L14P_T2_SRCC_12 (io), AC21 IO_L11N_T1_SRCC_12 (io), AC22 IO_L2P_T0_12 (io), AC23 IO_L2N_T0_12 (io), AD17 IO_L20N_T3_12 (io), AD18 IO_L15N_T2_DQS_12 (io), AD19 IO_L14N_T2_SRCC_12 (io), AD20 IO_L10P_T1_12 (io), AD21 IO_L7P_T1_12 (io), AD23 IO_L6P_T0_12 (io), AD24 IO_L6N_T0_VREF_12 (io), AD25 IO_L4P_T0_12 (io), AD26 IO_L4N_T0_12 (io), AE17 IO_L18P_T2_12 (io), AE18 IO_L16P_T2_12 (io), AE20 IO_L10N_T1_12 (io), AE21 IO_L7N_T1_12 (io), AE22 IO_L9P_T1_DQS_12 (io), AE23 IO_L5P_T0_12 (io), AE25 IO_L1P_T0_12 (io), AE26 IO_L1N_T0_12 (io), AF17 IO_L18N_T2_12 (io), AF18 IO_L16N_T2_12 (io), AF19 IO_L8P_T1_12 (io), AF20 IO_L8N_T1_12 (io), AF22 IO_L9N_T1_DQS_12 (io), AF23 IO_L5N_T0_12 (io), AF24 IO_L3P_T0_DQS_12 (io), AF25 IO_L3N_T0_DQS_12 (io), W14 IO_L24P_T3_12 (io), W15 IO_L24N_T3_12 (io), W16 IO_25_12 (io), Y15 IO_L23P_T3_12 (io), Y16 IO_L21P_T3_DQS_12 (io), Y17 IO_L21N_T3_DQS_12 (io), Y18 IO_L17P_T2_12 (io)
part B pins: AA22 IO_L8P_T1_13 (io), AA23 IO_L8N_T1_13 (io), AA24 IO_L7P_T1_13 (io), AA25 IO_L5N_T0_13 (io), AB24 IO_L9P_T1_DQS_13 (io), AB25 IO_L7N_T1_13 (io), AB26 IO_L3P_T0_DQS_13 (io), AC24 IO_L9N_T1_DQS_13 (io), AC26 IO_L3N_T0_DQS_13 (io), T14 IO_L20P_T3_13 (io), T15 IO_L20N_T3_13 (io), T17 IO_L21P_T3_DQS_13 (io), T18 IO_L21N_T3_DQS_13 (io), T19 IO_L17P_T2_13 (io), T20 IO_L15P_T2_DQS_13 (io), U14 IO_L23P_T3_13 (io), U15 IO_L22P_T3_13 (io), U16 IO_L22N_T3_13 (io), U17 IO_25_13 (io), U19 IO_L17N_T2_13 (io), U20 IO_L15N_T2_DQS_13 (io), U21 IO_L13P_T2_MRCC_13 (io), U22 IO_L12P_T1_MRCC_13 (io), U24 IO_0_13 (io), U25 IO_L1P_T0_13 (io), U26 IO_L1N_T0_13 (io), V14 IO_L23N_T3_13 (io), V16 IO_L24P_T3_13 (io), V17 IO_L24N_T3_13 (io), V18 IO_L19P_T3_13 (io), V19 IO_L18P_T2_13 (io), V21 IO_L13N_T2_MRCC_13 (io), V22 IO_L12N_T1_MRCC_13 (io), V23 IO_L10P_T1_13 (io), V24 IO_L6P_T0_13 (io), V26 IO_L2P_T0_13 (io), W18 IO_L19N_T3_VREF_13 (io), W19 IO_L18N_T2_13 (io), W20 IO_L16P_T2_13 (io), W21 IO_L14P_T2_SRCC_13 (io), W23 IO_L10N_T1_13 (io), W24 IO_L6N_T0_VREF_13 (io), W25 IO_L4P_T0_13 (io), W26 IO_L2N_T0_13 (io), Y20 IO_L16N_T2_13 (io), Y21 IO_L14N_T2_SRCC_13 (io), Y22 IO_L11P_T1_SRCC_13 (io), Y23 IO_L11N_T1_SRCC_13 (io), Y25 IO_L5P_T0_13 (io), Y26 IO_L4N_T0_13 (io)
part C pins: K25 IO_L7P_T1_D09_14 (io), K26 IO_L7N_T1_D10_14 (io), L20 IO_L8N_T1_D12_14 (io), L22 IO_L11P_T1_SRCC_14 (io), L23 IO_L11N_T1_SRCC_14 (io), L24 IO_L9P_T1_DQS_14 (io), L25 IO_L9N_T1_DQS_D13_14 (io), M19 IO_0_14 (io), M20 IO_L8P_T1_D11_14 (io), M21 IO_L12P_T1_MRCC_14 (io), M22 IO_L12N_T1_MRCC_14 (io), M24 IO_L10P_T1_D14_14 (io), M25 IO_L10N_T1_D15_14 (io), M26 IO_L20N_T3_A07_D23_14 (io), N14 IO_L2N_T0_D03_14 (io), N16 IO_L4P_T0_D04_14 (io), N17 IO_L4N_T0_D05_14 (io), N18 IO_L6N_T0_D08_VREF_14 (io), N19 IO_L16N_T2_A15_D31_14 (io), N21 IO_L13P_T2_MRCC_14 (io), N22 IO_L13N_T2_MRCC_14 (io), N23 IO_L15P_T2_DQS_RDWR_B_14 (io), N24 IO_L15N_T2_DQS_DOUT_CSO_B_14 (io), N26 IO_L20P_T3_A08_D24_14 (io), P14 IO_L2P_T0_D02_14 (io), P15 IO_L3P_T0_DQS_PUDC_B_14 (io), P16 IO_L3N_T0_DQS_EMCCLK_14 (io), P18 IO_L6P_T0_FCS_B_14 (io), P19 IO_L16P_T2_CSI_B_14 (io), P20 IO_L14P_T2_SRCC_14 (io), P21 IO_L14N_T2_SRCC_14 (io), P23 IO_L17P_T2_A14_D30_14 (io), P24 IO_L17N_T2_A13_D29_14 (io), P25 IO_L19N_T3_A09_D25_VREF_14 (io), P26 IO_L22N_T3_A04_D20_14 (io), R14 IO_L1P_T0_D00_MOSI_14 (io), R15 IO_L1N_T0_D01_DIN_14 (io), R16 IO_L5P_T0_D06_14 (io), R17 IO_L5N_T0_D07_14 (io), R18 IO_25_14 (io), R20 IO_L18P_T2_A12_D28_14 (io), R21 IO_L18N_T2_A11_D27_14 (io), R22 IO_L23N_T3_A02_D18_14 (io), R23 IO_L24N_T3_A00_D16_14 (io), R25 IO_L19P_T3_A10_D26_14 (io), R26 IO_L22P_T3_A05_D21_14 (io), T22 IO_L23P_T3_A03_D19_14 (io), T23 IO_L24P_T3_A01_D17_14 (io), T24 IO_L21P_T3_DQS_14 (io), T25 IO_L21N_T3_DQS_A06_D22_14 (io)
part D pins: D25 IO_L20N_T3_A19_15 (io), D26 IO_L21N_T3_DQS_A18_15 (io), E23 IO_L17N_T2_A25_15 (io), E25 IO_L20P_T3_A20_15 (io), E26 IO_L21P_T3_DQS_15 (io), F22 IO_L15N_T2_DQS_ADV_B_15 (io), F23 IO_L17P_T2_A26_15 (io), F24 IO_L19N_T3_A21_VREF_15 (io), F25 IO_L23N_T3_FWE_B_15 (io), G20 IO_L11P_T1_SRCC_15 (io), G21 IO_L11N_T1_SRCC_15 (io), G22 IO_L15P_T2_DQS_15 (io), G24 IO_L19P_T3_A22_15 (io), G25 IO_L23P_T3_FOE_B_15 (io), G26 IO_L22N_T3_A16_15 (io), H18 IO_L10N_T1_AD11N_15 (io), H19 IO_L7N_T1_AD2N_15 (io), H21 IO_L13P_T2_MRCC_15 (io), H22 IO_L13N_T2_MRCC_15 (io), H23 IO_L14N_T2_SRCC_15 (io), H24 IO_L16N_T2_A27_15 (io), H26 IO_L22P_T3_A17_15 (io), J14 IO_L2P_T0_AD8P_15 (io), J15 IO_L2N_T0_AD8N_15 (io), J16 IO_L1N_T0_AD0N_15 (io), J18 IO_L10P_T1_AD11P_15 (io), J19 IO_L7P_T1_AD2P_15 (io), J20 IO_L9N_T1_DQS_AD3N_15 (io), J21 IO_L12N_T1_MRCC_15 (io), J23 IO_L14P_T2_SRCC_15 (io), J24 IO_L16P_T2_A28_15 (io), J25 IO_L24P_T3_RS1_15 (io), J26 IO_L24N_T3_RS0_15 (io), K15 IO_L1P_T0_AD0P_15 (io), K16 IO_L3P_T0_DQS_AD1P_15 (io), K17 IO_L3N_T0_DQS_AD1N_15 (io), K18 IO_0_15 (io), K20 IO_L9P_T1_DQS_AD3P_15 (io), K21 IO_L12P_T1_MRCC_15 (io), K22 IO_L18P_T2_A24_15 (io), K23 IO_L18N_T2_A23_15 (io), L14 IO_L4N_T0_15 (io), L15 IO_L5N_T0_AD9N_15 (io), L17 IO_L8P_T1_AD10P_15 (io), L18 IO_L8N_T1_AD10N_15 (io), L19 IO_25_15 (io), M14 IO_L4P_T0_15 (io), M15 IO_L5P_T0_AD9P_15 (io), M16 IO_L6P_T0_15 (io), M17 IO_L6N_T0_VREF_15 (io)
part E pins: A17 IO_L9P_T1_DQS_16 (io), A18 IO_L9N_T1_DQS_16 (io), A19 IO_L10N_T1_16 (io), A20 IO_L15N_T2_DQS_16 (io), A22 IO_L17N_T2_16 (io), A23 IO_L21P_T3_DQS_16 (io), A24 IO_L21N_T3_DQS_16 (io), A25 IO_L20N_T3_16 (io), B17 IO_L7N_T1_16 (io), B19 IO_L10P_T1_16 (io), B20 IO_L15P_T2_DQS_16 (io), B21 IO_L16N_T2_16 (io), B22 IO_L17P_T2_16 (io), B24 IO_L23N_T3_16 (io), B25 IO_L20P_T3_16 (io), B26 IO_L22N_T3_16 (io), C17 IO_L7P_T1_16 (io), C18 IO_L12N_T1_MRCC_16 (io), C19 IO_L13N_T2_MRCC_16 (io), C21 IO_L16P_T2_16 (io), C22 IO_L19P_T3_16 (io), C23 IO_L19N_T3_VREF_16 (io), C24 IO_L23P_T3_16 (io), C26 IO_L22P_T3_16 (io), D16 IO_L8N_T1_16 (io), D18 IO_L12P_T1_MRCC_16 (io), D19 IO_L13P_T2_MRCC_16 (io), D20 IO_L14N_T2_SRCC_16 (io), D21 IO_L18N_T2_16 (io), D23 IO_L24P_T3_16 (io), D24 IO_L24N_T3_16 (io), E16 IO_L8P_T1_16 (io), E17 IO_L11P_T1_SRCC_16 (io), E18 IO_L11N_T1_SRCC_16 (io), E20 IO_L14P_T2_SRCC_16 (io), E21 IO_L18P_T2_16 (io), E22 IO_25_16 (io), F15 IO_L4N_T0_16 (io), F17 IO_L2N_T0_16 (io), F18 IO_L3P_T0_DQS_16 (io), F19 IO_L3N_T0_DQS_16 (io), F20 IO_L5N_T0_16 (io), G15 IO_L4P_T0_16 (io), G16 IO_L6N_T0_VREF_16 (io), G17 IO_L2P_T0_16 (io), G19 IO_L5P_T0_16 (io), H14 IO_L1P_T0_16 (io), H15 IO_L1N_T0_16 (io), H16 IO_L6P_T0_16 (io), H17 IO_0_16 (io)
part F pins: AA2 IO_L12N_T1_MRCC_33 (io), AA3 IO_L12P_T1_MRCC_33 (io), AA4 IO_L13P_T2_MRCC_33 (io), AA5 IO_L22P_T3_33 (io), AA7 IO_L19N_T3_VREF_33 (io), AA8 IO_L23N_T3_33 (io), AB1 IO_L7P_T1_33 (io), AB2 IO_L11P_T1_SRCC_33 (io), AB4 IO_L13N_T2_MRCC_33 (io), AB5 IO_L22N_T3_33 (io), AB6 IO_L24P_T3_33 (io), AC1 IO_L7N_T1_33 (io), AC2 IO_L11N_T1_SRCC_33 (io), AC3 IO_L14P_T2_SRCC_33 (io), AC4 IO_L18P_T2_33 (io), AC6 IO_L24N_T3_33 (io), AD1 IO_L9P_T1_DQS_33 (io), AD3 IO_L14N_T2_SRCC_33 (io), AD4 IO_L18N_T2_33 (io), AD5 IO_L15P_T2_DQS_33 (io), AE1 IO_L9N_T1_DQS_33 (io), AE2 IO_L10P_T1_33 (io), AE3 IO_L16P_T2_33 (io), AE5 IO_L15N_T2_DQS_33 (io), AF2 IO_L10N_T1_33 (io), AF3 IO_L16N_T2_33 (io), AF4 IO_L17N_T2_33 (io), AF5 IO_L17P_T2_33 (io), U7 IO_L6P_T0_33 (io), V1 IO_L1P_T0_33 (io), V2 IO_L3N_T0_DQS_33 (io), V3 IO_L3P_T0_DQS_33 (io), V4 IO_0_33 (io), V6 IO_L4P_T0_33 (io), V7 IO_L6N_T0_VREF_33 (io), V8 IO_L21P_T3_DQS_33 (io), V9 IO_25_33 (io), W1 IO_L1N_T0_33 (io), W3 IO_L5P_T0_33 (io), W4 IO_L2N_T0_33 (io), W5 IO_L2P_T0_33 (io), W6 IO_L4N_T0_33 (io), W8 IO_L21N_T3_DQS_33 (io), Y1 IO_L8N_T1_33 (io), Y2 IO_L8P_T1_33 (io), Y3 IO_L5N_T0_33 (io), Y5 IO_L20N_T3_33 (io), Y6 IO_L20P_T3_33 (io), Y7 IO_L19P_T3_33 (io), Y8 IO_L23P_T3_33 (io)
part G pins: H1 IO_L10N_T1_34 (io), H2 IO_L10P_T1_34 (io), J1 IO_L7N_T1_34 (io), J3 IO_L1N_T0_34 (io), K1 IO_L7P_T1_34 (io), K2 IO_L8N_T1_34 (io), K3 IO_L1P_T0_34 (io), K5 IO_L4N_T0_34 (io), L2 IO_L11N_T1_SRCC_34 (io), L3 IO_L8P_T1_34 (io), L4 IO_L3N_T0_DQS_34 (io), L5 IO_L4P_T0_34 (io), L7 IO_L2N_T0_34 (io), M1 IO_L9N_T1_DQS_34 (io), M2 IO_L11P_T1_SRCC_34 (io), M4 IO_L3P_T0_DQS_34 (io), M5 IO_L6N_T0_VREF_34 (io), M6 IO_L6P_T0_34 (io), M7 IO_L2P_T0_34 (io), N1 IO_L9P_T1_DQS_34 (io), N2 IO_L12N_T1_MRCC_34 (io), N3 IO_L12P_T1_MRCC_34 (io), N4 IO_L14N_T2_SRCC_34 (io), N6 IO_L5N_T0_34 (io), N7 IO_L5P_T0_34 (io), N8 IO_0_34 (io), P1 IO_L15N_T2_DQS_34 (io), P3 IO_L13N_T2_MRCC_34 (io), P4 IO_L14P_T2_SRCC_34 (io), P5 IO_L19N_T3_VREF_34 (io), P6 IO_L19P_T3_34 (io), P8 IO_L22N_T3_34 (io), R1 IO_L15P_T2_DQS_34 (io), R2 IO_L17N_T2_34 (io), R3 IO_L13P_T2_MRCC_34 (io), R5 IO_L20N_T3_34 (io), R6 IO_L23N_T3_34 (io), R7 IO_L23P_T3_34 (io), R8 IO_L22P_T3_34 (io), T2 IO_L17P_T2_34 (io), T3 IO_L16N_T2_34 (io), T4 IO_L16P_T2_34 (io), T5 IO_L20P_T3_34 (io), T7 IO_L24N_T3_34 (io), T8 IO_L24P_T3_34 (io), U1 IO_L18N_T2_34 (io), U2 IO_L18P_T2_34 (io), U4 IO_25_34 (io), U5 IO_L21N_T3_DQS_34 (io), U6 IO_L21P_T3_DQS_34 (io)
part H pins: A2 IO_L20N_T3_35 (io), A3 IO_L20P_T3_35 (io), A4 IO_L16N_T2_35 (io), A5 IO_L15N_T2_DQS_35 (io), B1 IO_L21N_T3_DQS_35 (io), B2 IO_L19N_T3_VREF_35 (io), B4 IO_L16P_T2_35 (io), B5 IO_L15P_T2_DQS_35 (io), C1 IO_L21P_T3_DQS_35 (io), C2 IO_L19P_T3_35 (io), C3 IO_L17N_T2_35 (io), C4 IO_L14N_T2_SRCC_35 (io), D1 IO_L23N_T3_35 (io), D3 IO_L17P_T2_35 (io), D4 IO_L14P_T2_SRCC_35 (io), D5 IO_L13N_T2_MRCC_35 (io), D6 IO_L1N_T0_AD4N_35 (io), E1 IO_L23P_T3_35 (io), E2 IO_L22N_T3_35 (io), E3 IO_L18N_T2_35 (io), E5 IO_L13P_T2_MRCC_35 (io), E6 IO_L1P_T0_AD4P_35 (io), F2 IO_L22P_T3_35 (io), F3 IO_L18P_T2_35 (io), F4 IO_L11N_T1_SRCC_35 (io), F5 IO_L12N_T1_MRCC_35 (io), F7 IO_L4N_T0_35 (io), F8 IO_L4P_T0_35 (io), G1 IO_L24N_T3_35 (io), G2 IO_L24P_T3_35 (io), G4 IO_L11P_T1_SRCC_35 (io), G5 IO_L12P_T1_MRCC_35 (io), G6 IO_L5N_T0_AD13N_35 (io), G7 IO_L3N_T0_DQS_AD5N_35 (io), G8 IO_L2N_T0_AD12N_35 (io), G9 IO_L6N_T0_VREF_35 (io), H3 IO_25_35 (io), H4 IO_L9N_T1_DQS_AD7N_35 (io), H6 IO_L5P_T0_AD13P_35 (io), H7 IO_L3P_T0_DQS_AD5P_35 (io), H8 IO_L2P_T0_AD12P_35 (io), H9 IO_L6P_T0_35 (io), J4 IO_L9P_T1_DQS_AD7P_35 (io), J5 IO_L7N_T1_AD6N_35 (io), J6 IO_L7P_T1_AD6P_35 (io), J8 IO_0_35 (io), K6 IO_L10N_T1_AD15N_35 (io), K7 IO_L10P_T1_AD15P_35 (io), K8 IO_L8N_T1_AD14N_35 (io), L8 IO_L8P_T1_AD14P_35 (io)
part I pins: AB7 M0_0 (in), AB15 CFGBVS_0 (in), AE16 PROGRAM_B_0 (in), H10 TDI_0 (in), H11 TMS_0 (in), H12 TCK_0 (in), H13 CCLK_0 (io), J10 TDO_0 (out), N11 VREFN_0 (in), N12 VP_0 (in), P11 VN_0 (in), P12 VREFP_0 (in), R11 DXN_0 (in), R12 DXP_0 (in), V11 INIT_B_0 (io), W9 M2_0 (in), W10 DONE_0 (io), Y9 M1_0 (in)
part J pins: A7 MGTPTXN0_216 (out), A9 MGTPTXN2_216 (out), A11 MGTPRXN0_216 (in), A13 MGTPRXN2_216 (in), A15 MGTRREF_216 (in), AA11 MGTREFCLK1P_213 (in), AA13 MGTREFCLK0P_213 (in), AB11 MGTREFCLK1N_213 (in), AB13 MGTREFCLK0N_213 (in), AC8 MGTPTXP2_213 (out), AC10 MGTPTXP0_213 (out), AC12 MGTPRXP0_213 (in), AC14 MGTPRXP2_213 (in), AD8 MGTPTXN2_213 (out), AD10 MGTPTXN0_213 (out), AD12 MGTPRXN0_213 (in), AD14 MGTPRXN2_213 (in), AE7 MGTPTXP3_213 (out), AE9 MGTPTXP1_213 (out), AE11 MGTPRXP3_213 (in), AE13 MGTPRXP1_213 (in), AF7 MGTPTXN3_213 (out), AF9 MGTPTXN1_213 (out), AF11 MGTPRXN3_213 (in), AF13 MGTPRXN1_213 (in), AF15 MGTRREF_213 (in), B7 MGTPTXP0_216 (out), B9 MGTPTXP2_216 (out), B11 MGTPRXP0_216 (in), B13 MGTPRXP2_216 (in), C8 MGTPTXN1_216 (out), C10 MGTPTXN3_216 (out), C12 MGTPRXN3_216 (in), C14 MGTPRXN1_216 (in), D8 MGTPTXP1_216 (out), D10 MGTPTXP3_216 (out), D12 MGTPRXP3_216 (in), D14 MGTPRXP1_216 (in), E11 MGTREFCLK0N_216 (in), E13 MGTREFCLK1N_216 (in), F11 MGTREFCLK0P_216 (in), F13 MGTREFCLK1P_216 (in)
part K pins: AA10 MGTAVCC_G10 (power), AA12 MGTAVCC_G10 (power), AC9 MGTAVCC_G10 (power), AC11 MGTAVCC_G10 (power), AC13 MGTAVCC_G10 (power), AD7 MGTAVTT_G10 (power), AD15 MGTAVTT_G10 (power), AE8 MGTAVTT_G10 (power), AE10 MGTAVTT_G10 (power), AE12 MGTAVTT_G10 (power), AE14 MGTAVTT_G10 (power), B8 MGTAVTT_G11 (power), B10 MGTAVTT_G11 (power), B12 MGTAVTT_G11 (power), B14 MGTAVTT_G11 (power), C7 MGTAVTT_G11 (power), C15 MGTAVTT_G11 (power), D9 MGTAVCC_G11 (power), D11 MGTAVCC_G11 (power), D13 MGTAVCC_G11 (power), F10 MGTAVCC_G11 (power), F12 MGTAVCC_G11 (power)
part L pins: A1 VCCO_35 (power), A21 VCCO_16 (power), AA1 VCCO_33 (power), AA21 VCCO_12 (power), AB18 VCCO_12 (power), AC5 VCCO_33 (power), AC25 VCCO_13 (power), AD2 VCCO_33 (power), AD22 VCCO_12 (power), AE19 VCCO_12 (power), AF26 VCCO_12 (power), B18 VCCO_16 (power), C5 VCCO_35 (power), C25 VCCO_16 (power), D2 VCCO_35 (power), D22 VCCO_16 (power), E19 VCCO_16 (power), F6 VCCO_35 (power), F16 VCCO_16 (power), F26 VCCO_15 (power), G3 VCCO_35 (power), G23 VCCO_15 (power), H20 VCCO_15 (power), J7 VCCO_35 (power), J17 VCCO_15 (power), K4 VCCO_34 (power), K14 VCCO_15 (power), K24 VCCO_14 (power), L1 VCCO_34 (power), L21 VCCO_14 (power), M8 VCCO_34 (power), M18 VCCO_15 (power), N5 VCCO_34 (power), N15 VCCO_14 (power), N25 VCCO_14 (power), P2 VCCO_34 (power), P22 VCCO_14 (power), R19 VCCO_14 (power), T6 VCCO_34 (power), T16 VCCO_13 (power), T26 VCCO_13 (power), U3 VCCO_33 (power), U23 VCCO_13 (power), V20 VCCO_13 (power), W7 VCCO_33 (power), W11 VCCO_0 (power), W17 VCCO_12 (power), Y4 VCCO_33 (power), Y14 VCCO_0 (power), Y24 VCCO_13 (power)
part M pins: G14 VCCBATT_0 (power), J9 VCCAUX (power), J11 VCCINT (power), J13 VCCINT (power), K10 VCCINT (power), K12 VCCINT (power), L9 VCCAUX (power), L11 VCCINT (power), L13 VCCINT (power), M10 VCCINT (power), M12 VCCADC_0 (power), N9 VCCAUX (power), N13 VCCBRAM (power), P10 VCCINT (power), R9 VCCAUX (power), R13 VCCBRAM (power), T10 VCCINT (power), T12 VCCINT (power), U9 VCCAUX (power), U11 VCCINT (power), U13 VCCBRAM (power), V10 VCCINT (power), V12 VCCINT (power), W13 VCCBRAM (power)
part N pins: A6 GND (power), A8 GND (power), A10 GND (power), A12 GND (power), A14 GND (power), A16 GND (power), A26 GND (power), AA6 GND (power), AA9 GND (power), AA14 GND (power), AA16 GND (power), AA26 GND (power), AB3 GND (power), AB8 GND (power), AB9 GND (power), AB10 GND (power), AB12 GND (power), AB14 GND (power), AB23 GND (power), AC7 GND (power), AC15 GND (power), AC20 GND (power), AD6 GND (power), AD9 GND (power), AD11 GND (power), AD13 GND (power), AD16 GND (power), AE4 GND (power), AE6 GND (power), AE15 GND (power), AE24 GND (power), AF1 GND (power), AF6 GND (power), AF8 GND (power), AF10 GND (power), AF12 GND (power), AF14 GND (power), AF16 GND (power), AF21 GND (power), B3 GND (power), B6 GND (power), B15 GND (power), B16 GND (power), B23 GND (power), C6 GND (power), C9 GND (power), C11 GND (power), C13 GND (power), C16 GND (power), C20 GND (power), D7 GND (power), D15 GND (power), D17 GND (power), E4 GND (power), E7 GND (power), E8 GND (power), E9 GND (power), E10 GND (power), E12 GND (power), E14 GND (power), E15 GND (power), E24 GND (power), F1 GND (power), F9 GND (power), F14 GND (power), F21 GND (power), G10 GND (power), G11 GND (power), G12 GND (power), G13 GND (power), G18 GND (power), H5 GND (power), H25 GND (power), J2 GND (power), J12 GND (power), J22 GND (power), K9 GND (power), K11 GND (power), K13 GND (power), K19 GND (power), L6 GND (power), L10 GND (power), L12 GND (power), L16 GND (power), L26 GND (power), M3 GND (power), M9 GND (power), M11 GNDADC_0 (power), M13 GND (power), M23 GND (power), N10 GND (power), N20 GND (power), P7 GND (power), P9 GND (power), P13 GND (power), P17 GND (power), R4 GND (power), R10 GND (power), R24 GND (power), T1 GND (power), T9 GND (power), T11 GND (power), T13 GND (power), T21 GND (power), U8 GND (power), U10 GND (power), U12 GND (power), U18 GND (power), V5 GND (power), V13 GND (power), V15 GND (power), V25 GND (power), W2 GND (power), W12 GND (power), W22 GND (power), Y10 GND (power), Y11 GND (power), Y12 GND (power), Y13 GND (power), Y19 GND (power)
part A text: BANK 12
part B text: BANK 13
part C text: BANK 14
part D text: BANK 15
part E text: BANK 16
part F text: BANK 33
part G text: BANK 34
part H text: BANK 35

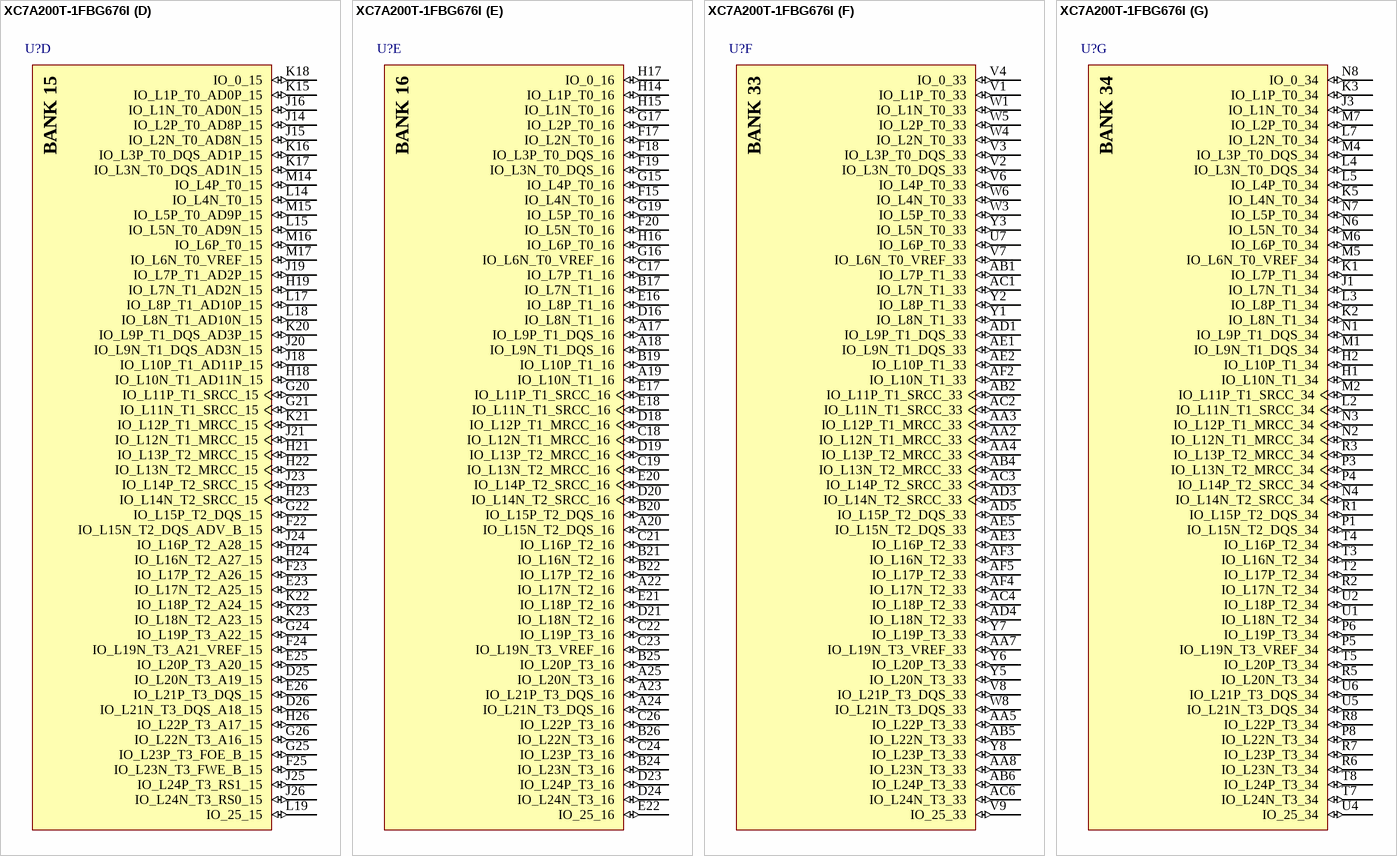
[diagram p73: symbol XC7A200T-1FBG676I]

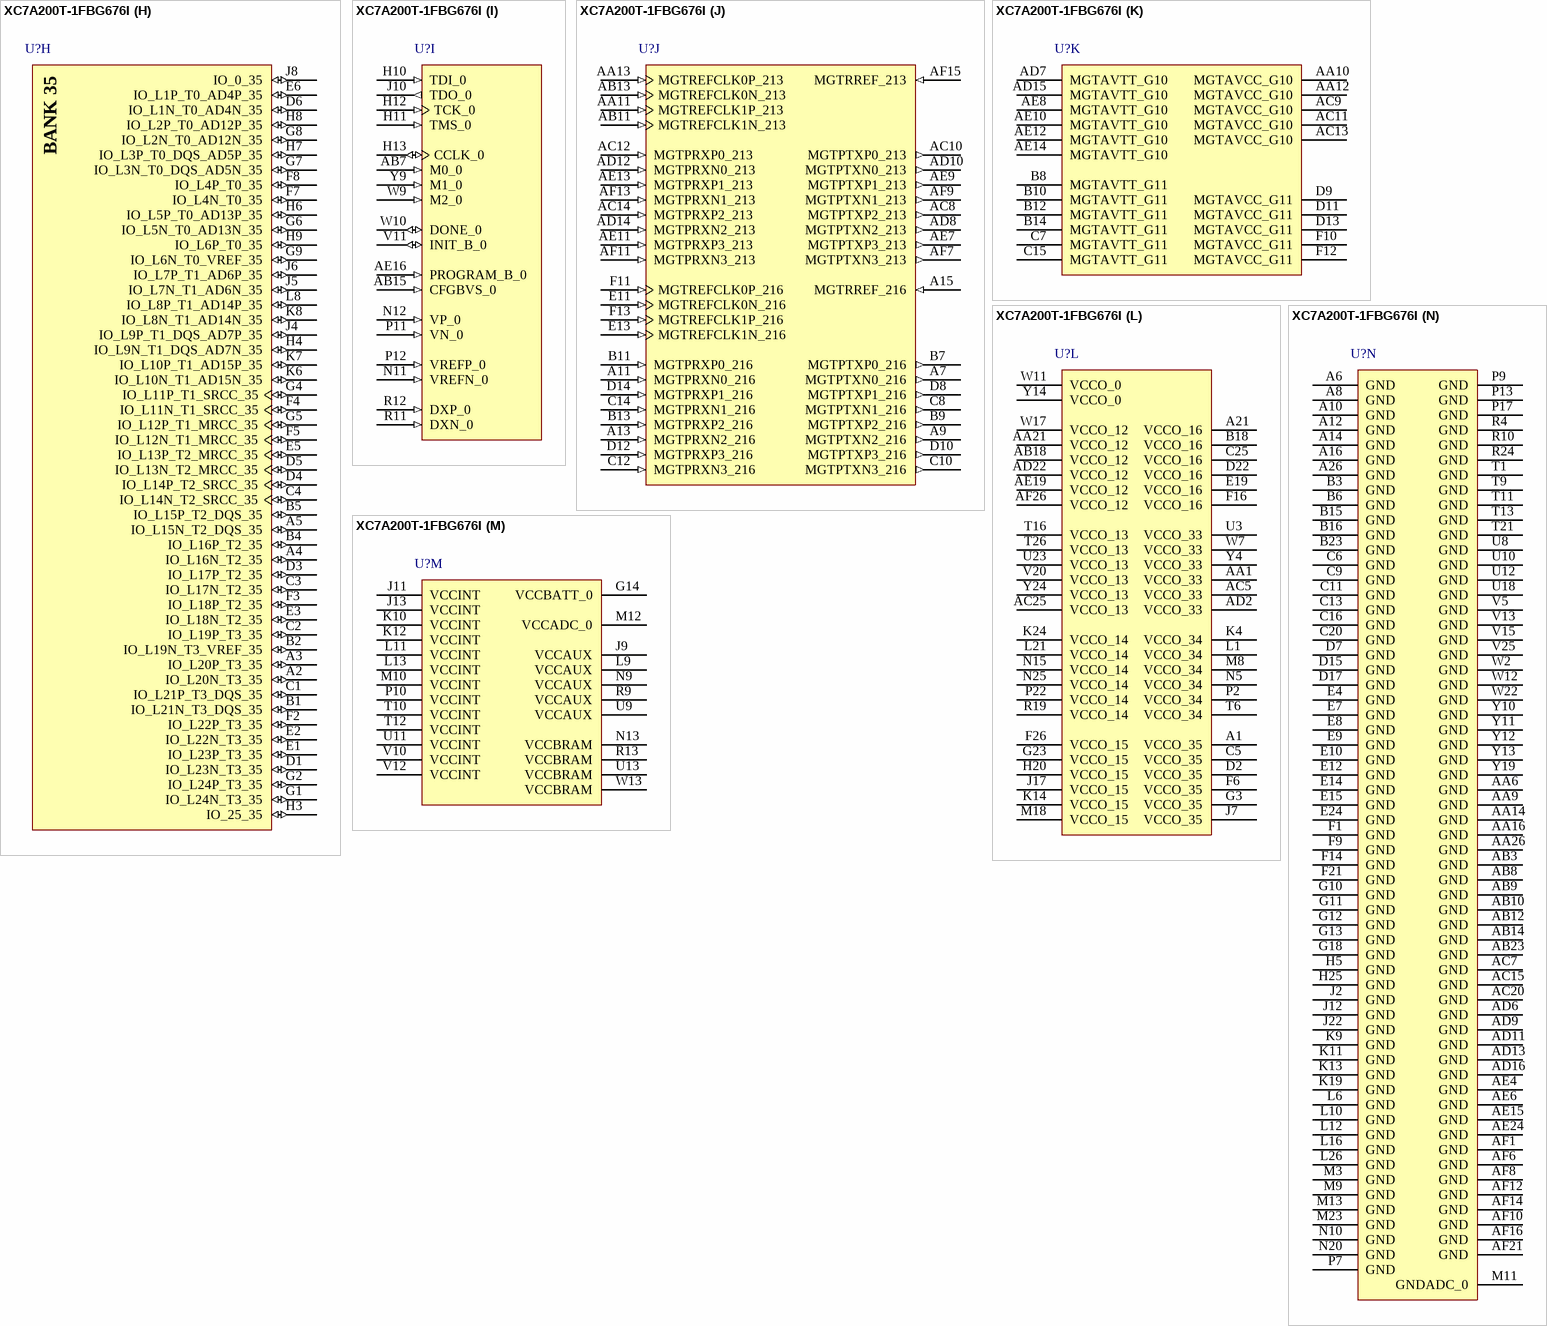
[diagram p74: symbol XC7A200T-1FBG676I]